# Altium integrated library altera.IntLib: 68 symbols (part 6 of 6)
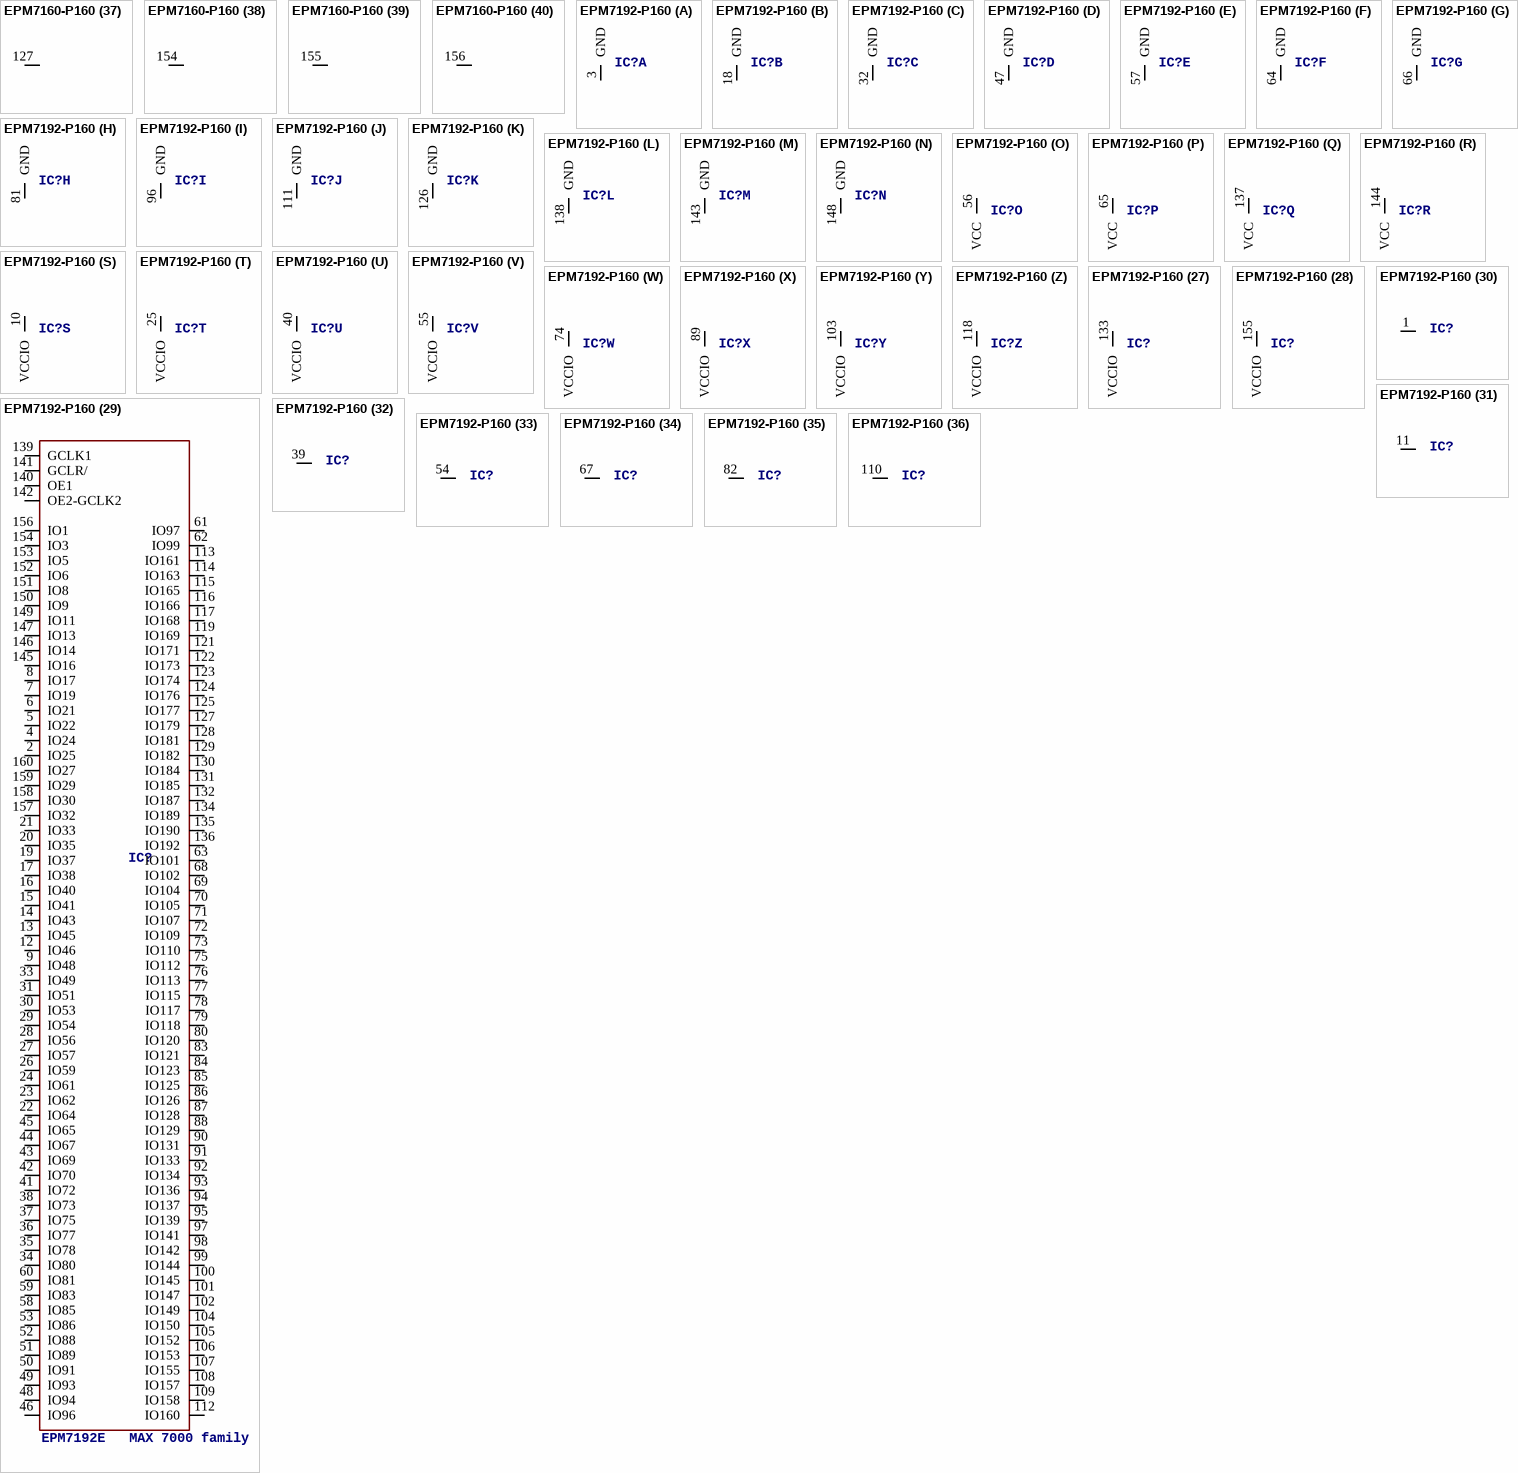
[diagram p62: symbols EPM7160-P160 to EPM7192-P160]

## EPM7160-P160
designator IC?, comment EPM7160S   MAX 7000 family
MPN: EPM7160SQC160-10N; OC_FARNELL: 1549437; OC_NEWARK: 51R9800
footprint PQFP160
part A pins: 8 VCCIO (power), 17 GND (power), 26 VCCIO@1 (power), 42 GND@1 (power), 55 VCCIO@2 (power), 60 GND@2 (power), 61 VCC (power), 66 GND@3 (power), 79 VCCIO@3 (power), 95 GND@4 (power), 104 VCCIO@4 (power), 113 GND@5 (power), 133 VCCIO@5 (power), 138 GND@6 (power), 143 VCC@1 (power), 148 GND@7 (power)
part B pins: 1 NC
part C pins: 2 NC
part D pins: 3 NC
part E pins: 4 NC
part F pins: 5 NC
part G pins: 6 NC
part H pins: 34 NC
part I pins: 35 NC
part J pins: 36 NC
part K pins: 37 NC
part L pins: 38 NC
part M pins: 39 NC
part N pins: 40 NC
part O pins: 45 NC
part P pins: 46 NC
part Q pins: 47 NC
part R pins: 74 NC
part S pins: 75 NC
part T pins: 76 NC
part U pins: 81 NC
part V pins: 82 NC
part W pins: 83 NC
part X pins: 84 NC
part Y pins: 85 NC
part Z pins: 86 NC
part 27 pins: 87 NC
part 28 pins: 115 NC
part 29 pins: 116 NC
part 30 pins: 117 NC
part 31 pins: 118 NC
part 32 pins: 119 NC
part 33 pins: 120 NC
part 34 pins: 124 NC
part 35 pins: 125 NC
part 36 pins: 126 NC
part 37 pins: 127 NC
part 38 pins: 154 NC
part 39 pins: 155 NC
part 40 pins: 156 NC
part 41 pins: 157 NC
part 42 pins: 7 IO29, 9 IO27, 10 IO25, 11 IO24, 12 IO22, 13 IO21, 14 IO19, 15 IO17, 16 IO41, 18 IO43, 19 IO45, 20 IO46, 21 IO48, 22 IO40, 23 IO38, 24 IO37, 25 IO35, 27 IO33, 28 IO64, 29 IO62, 30 IO61, 31 IO59, 32 IO57, 33 IO56, 41 IO54, 43 IO53, 44 IO51, 48 IO49, 49 IO80, 50 IO78, 51 IO77-TDI, 52 IO75, 53 IO73, 54 IO72, 56 IO70, 57 IO69, 58 IO67, 59 IO65, 62 IO81, 63 IO83, 64 IO85, 65 IO86, 67 IO88, 68 IO89, 69 IO91, 70 IO93, 71 IO94, 72 IO96, 73 IO97, 77 IO99, 78 IO101, 80 IO102, 88 IO104, 89 IO105, 90 IO107, 91 IO109-TMS, 92 IO110, 93 IO112, 94 IO113, 96 IO115, 97 IO117, 98 IO118, 99 IO120, 100 IO128, 101 IO126, 102 IO125, 103 IO123, 105 IO121, 106 IO129, 107 IO131, 108 IO133, 109 IO134, 110 IO136, 111 IO137, 112 IO139, 114 TDO-IO141, 121 IO142, 122 IO144, 123 IO145, 128 IO147, 129 IO149, 130 IO150, 131 IO152, 132 IO153, 134 IO155, 135 IO157, 136 IO158, 137 IO160, 139 GCLK1, 140 OE1, 141 GCLR/, 142 OE2-GCLK2, 144 IO16, 145 IO14, 146 IO13, 147 IO11, 149 IO9, 150 IO8, 151 IO6, 152 IO5, 153 IO3, 158 IO1, 159 IO32, 160 IO30

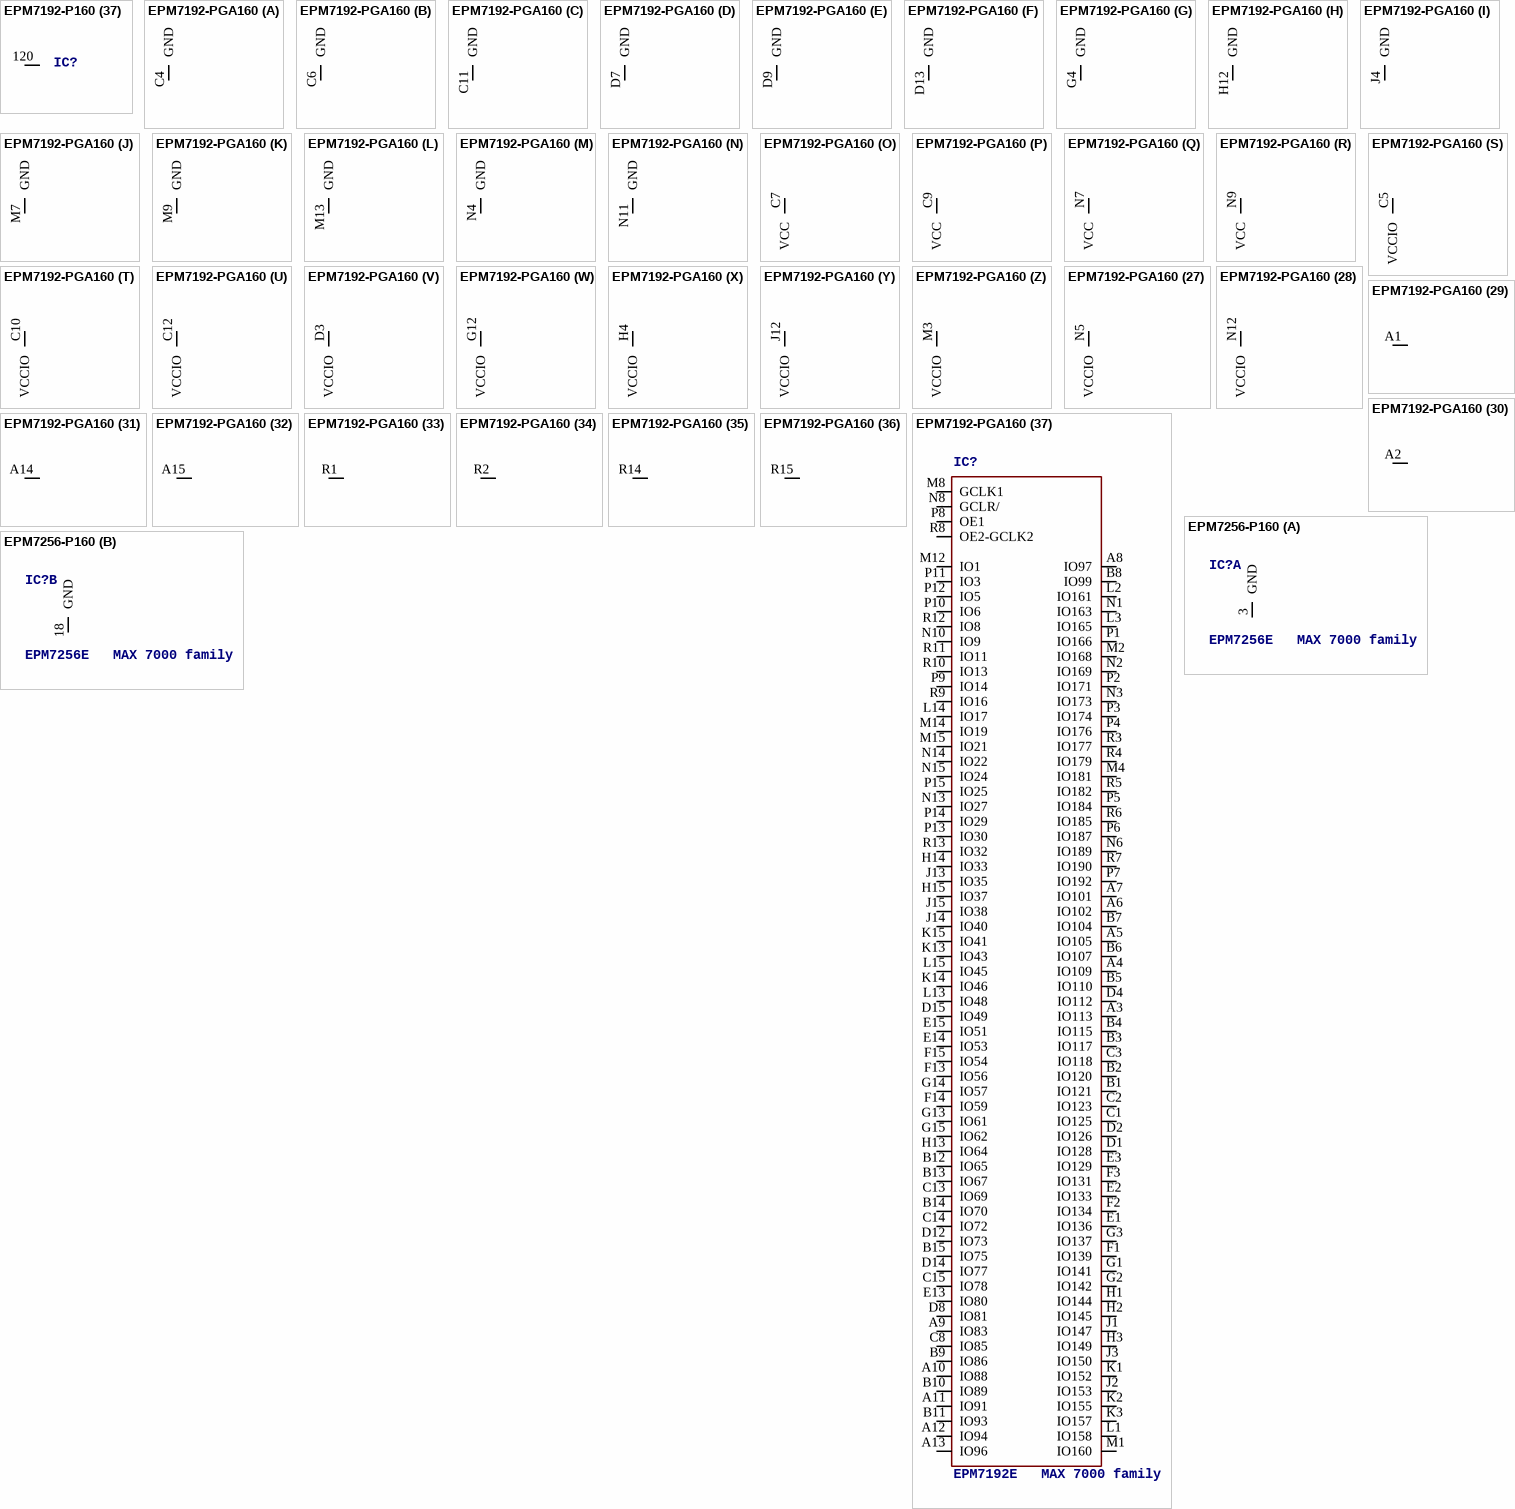
[diagram p47: symbols EPM7192-P160 to EPM7256-P160]

## EPM7192-P160
designator IC?, comment EPM7192E   MAX 7000 family
MPN: EPM7192SQC160-10N; OC_FARNELL: 1549438; OC_NEWARK: 51R9820
footprint PQFP160
part A pins: 3 GND (power)
part B pins: 18 GND (power)
part C pins: 32 GND (power)
part D pins: 47 GND (power)
part E pins: 57 GND (power)
part F pins: 64 GND (power)
part G pins: 66 GND (power)
part H pins: 81 GND (power)
part I pins: 96 GND (power)
part J pins: 111 GND (power)
part K pins: 126 GND (power)
part L pins: 138 GND (power)
part M pins: 143 GND (power)
part N pins: 148 GND (power)
part O pins: 56 VCC (power)
part P pins: 65 VCC (power)
part Q pins: 137 VCC (power)
part R pins: 144 VCC (power)
part S pins: 10 VCCIO (power)
part T pins: 25 VCCIO (power)
part U pins: 40 VCCIO (power)
part V pins: 55 VCCIO (power)
part W pins: 74 VCCIO (power)
part X pins: 89 VCCIO (power)
part Y pins: 103 VCCIO (power)
part Z pins: 118 VCCIO (power)
part 27 pins: 133 VCCIO (power)
part 28 pins: 155 VCCIO (power)
part 29 pins: 2 IO25, 4 IO24, 5 IO22, 6 IO21, 7 IO19, 8 IO17, 9 IO48, 12 IO46, 13 IO45, 14 IO43, 15 IO41, 16 IO40, 17 IO38, 19 IO37, 20 IO35, 21 IO33, 22 IO64, 23 IO62, 24 IO61, 26 IO59, 27 IO57, 28 IO56, 29 IO54, 30 IO53, 31 IO51, 33 IO49, 34 IO80, 35 IO78, 36 IO77, 37 IO75, 38 IO73, 41 IO72, 42 IO70, 43 IO69, 44 IO67, 45 IO65, 46 IO96, 48 IO94, 49 IO93, 50 IO91, 51 IO89, 52 IO88, 53 IO86, 58 IO85, 59 IO83, 60 IO81, 61 IO97, 62 IO99, 63 IO101, 68 IO102, 69 IO104, 70 IO105, 71 IO107, 72 IO109, 73 IO110, 75 IO112, 76 IO113, 77 IO115, 78 IO117, 79 IO118, 80 IO120, 83 IO121, 84 IO123, 85 IO125, 86 IO126, 87 IO128, 88 IO129, 90 IO131, 91 IO133, 92 IO134, 93 IO136, 94 IO137, 95 IO139, 97 IO141, 98 IO142, 99 IO144, 100 IO145, 101 IO147, 102 IO149, 104 IO150, 105 IO152, 106 IO153, 107 IO155, 108 IO157, 109 IO158, 112 IO160, 113 IO161, 114 IO163, 115 IO165, 116 IO166, 117 IO168, 119 IO169, 121 IO171, 122 IO173, 123 IO174, 124 IO176, 125 IO177, 127 IO179, 128 IO181, 129 IO182, 130 IO184, 131 IO185, 132 IO187, 134 IO189, 135 IO190, 136 IO192, 139 GCLK1, 140 OE1, 141 GCLR/, 142 OE2-GCLK2, 145 IO16, 146 IO14, 147 IO13, 149 IO11, 150 IO9, 151 IO8, 152 IO6, 153 IO5, 154 IO3, 156 IO1, 157 IO32, 158 IO30, 159 IO29, 160 IO27
part 30 pins: 1 NC
part 31 pins: 11 NC
part 32 pins: 39 NC
part 33 pins: 54 NC
part 34 pins: 67 NC
part 35 pins: 82 NC
part 36 pins: 110 NC
part 37 pins: 120 NC

## EPM7192-PGA160
designator IC?, comment EPM7192E   MAX 7000 family
OC_FARNELL: unknown; OC_NEWARK: unknown
footprint PGA160
part A pins: C4 GND (power)
part B pins: C6 GND (power)
part C pins: C11 GND (power)
part D pins: D7 GND (power)
part E pins: D9 GND (power)
part F pins: D13 GND (power)
part G pins: G4 GND (power)
part H pins: H12 GND (power)
part I pins: J4 GND (power)
part J pins: M7 GND (power)
part K pins: M9 GND (power)
part L pins: M13 GND (power)
part M pins: N4 GND (power)
part N pins: N11 GND (power)
part O pins: C7 VCC (power)
part P pins: C9 VCC (power)
part Q pins: N7 VCC (power)
part R pins: N9 VCC (power)
part S pins: C5 VCCIO (power)
part T pins: C10 VCCIO (power)
part U pins: C12 VCCIO (power)
part V pins: D3 VCCIO (power)
part W pins: G12 VCCIO (power)
part X pins: H4 VCCIO (power)
part Y pins: J12 VCCIO (power)
part Z pins: M3 VCCIO (power)
part 27 pins: N5 VCCIO (power)
part 28 pins: N12 VCCIO (power)
part 29 pins: A1 NC
part 30 pins: A2 NC
part 31 pins: A14 NC
part 32 pins: A15 NC
part 33 pins: R1 NC
part 34 pins: R2 NC
part 35 pins: R14 NC
part 36 pins: R15 NC
part 37 pins: A3 IO113, A4 IO109, A5 IO105, A6 IO102, A7 IO101, A8 IO97, A9 IO83, A10 IO88, A11 IO91, A12 IO94, A13 IO96, B1 IO121, B2 IO120, B3 IO117, B4 IO115, B5 IO110, B6 IO107, B7 IO104, B8 IO99, B9 IO86, B10 IO89, B11 IO93, B12 IO65, B13 IO67, B14 IO70, B15 IO75, C1 IO125, C2 IO123, C3 IO118, C8 IO85, C13 IO69, C14 IO72, C15 IO78, D1 IO128, D2 IO126, D4 IO112, D8 IO81, D12 IO73, D14 IO77, D15 IO49, E1 IO136, E2 IO133, E3 IO129, E13 IO80, E14 IO53, E15 IO51, F1 IO139, F2 IO134, F3 IO131, F13 IO56, F14 IO59, F15 IO54, G1 IO141, G2 IO142, G3 IO137, G13 IO61, G14 IO57, G15 IO62, H1 IO144, H2 IO145, H3 IO149, H13 IO64, H14 IO33, H15 IO37, J1 IO147, J2 IO153, J3 IO150, J13 IO35, J14 IO40, J15 IO38, K1 IO152, K2 IO155, K3 IO157, K13 IO43, K14 IO46, K15 IO41, L1 IO158, L2 IO161, L3 IO165, L13 IO48, L14 IO17, L15 IO45, M1 IO160, M2 IO168, M4 IO181, M8 GCLK1, M12 IO1, M14 IO19, M15 IO21, N1 IO163, N2 IO169, N3 IO173, N6 IO189, N8 GCLR/, N10 IO9, N13 IO27, N14 IO22, N15 IO24, P1 IO166, P2 IO171, P3 IO174, P4 IO176, P5 IO184, P6 IO187, P7 IO192, P8 OE1, P9 IO14, P10 IO6, P11 IO3, P12 IO5, P13 IO30, P14 IO29, P15 IO25, R3 IO177, R4 IO179, R5 IO182, R6 IO185, R7 IO190, R8 OE2-GCLK2, R9 IO16, R10 IO13, R11 IO11, R12 IO8, R13 IO32

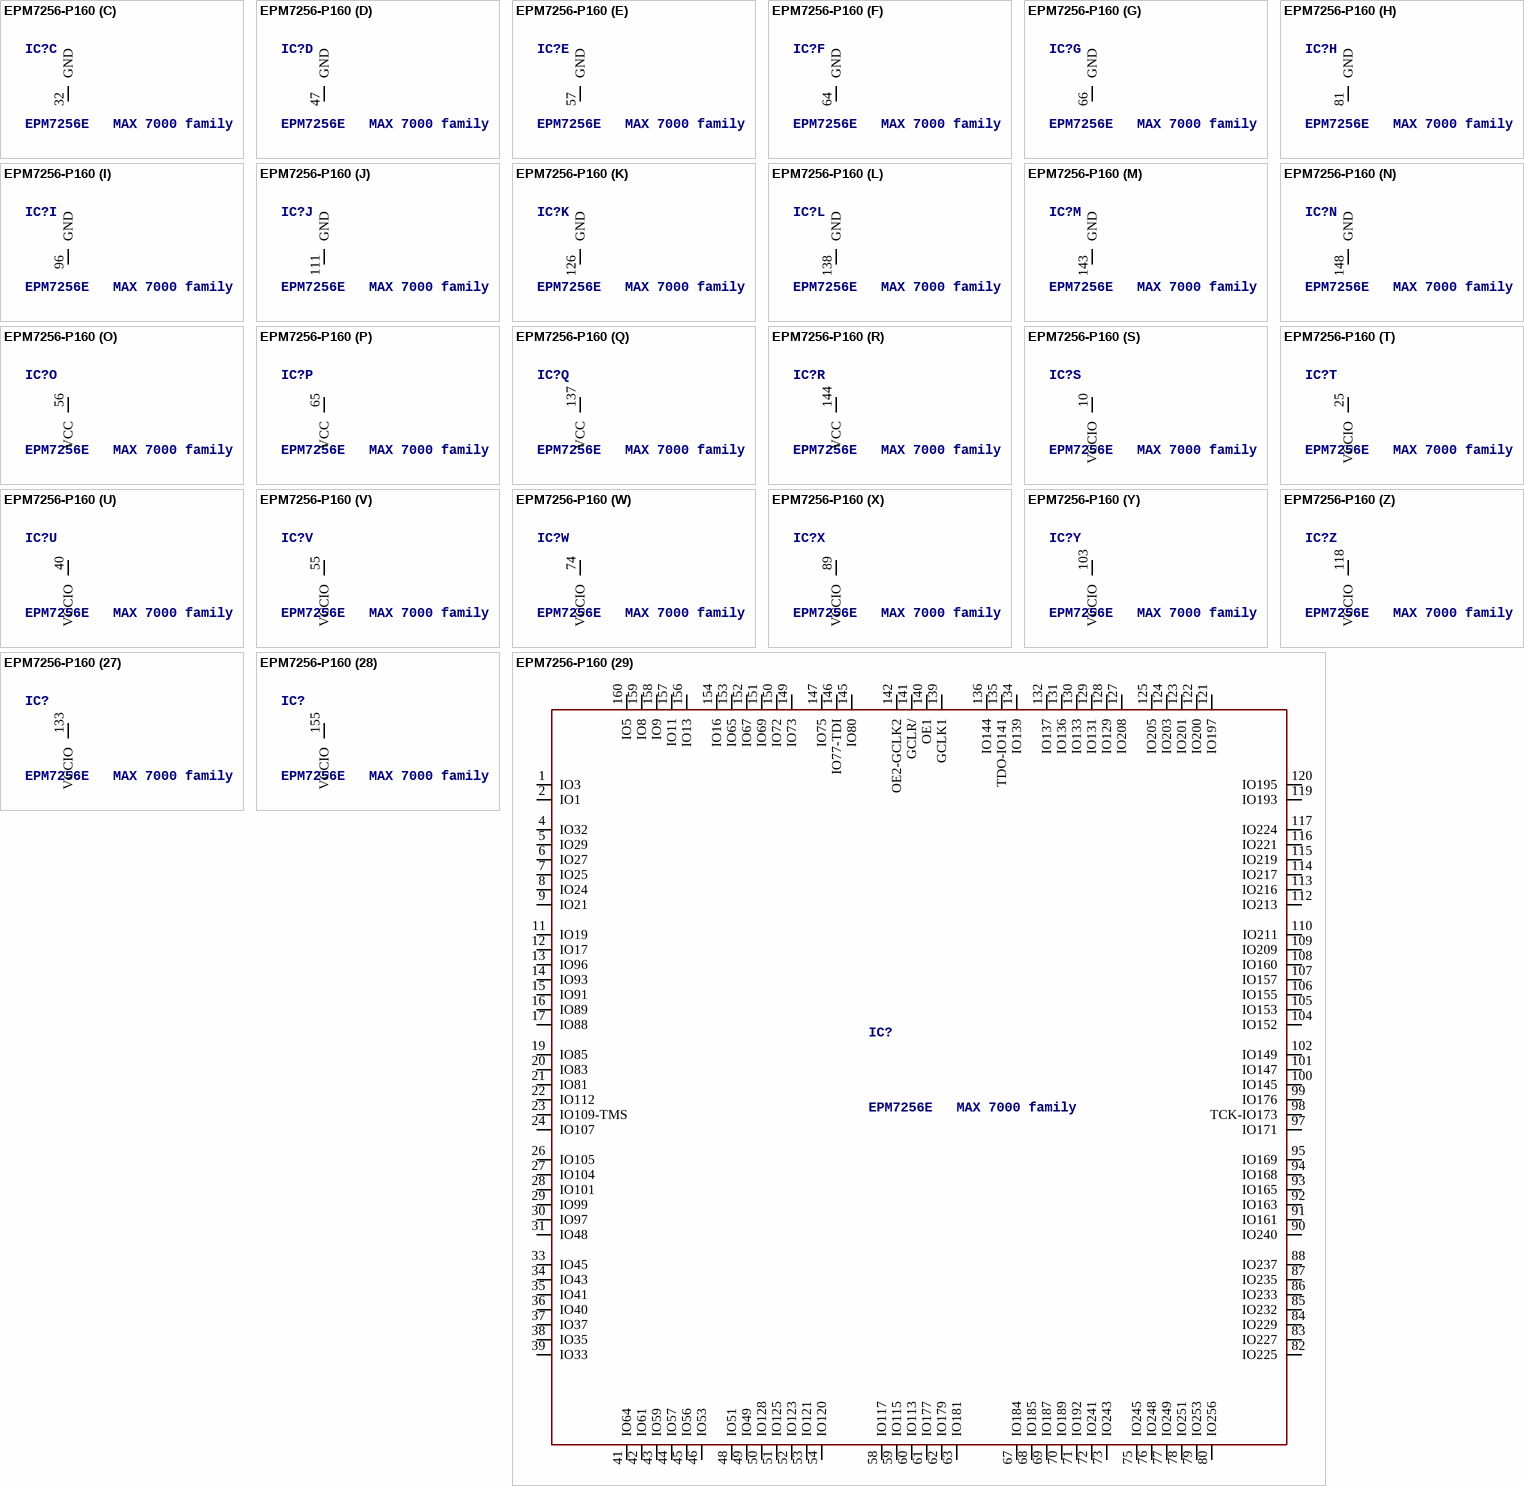
[diagram p48: symbol EPM7256-P160]

## EPM7256-P160
designator IC?, comment EPM7256E   MAX 7000 family
MPN: EPM7256EQC160-12; OC_FARNELL: unknown; OC_NEWARK: 51R9894
footprint PQFP160
part A pins: 3 GND (power)
part B pins: 18 GND (power)
part C pins: 32 GND (power)
part D pins: 47 GND (power)
part E pins: 57 GND (power)
part F pins: 64 GND (power)
part G pins: 66 GND (power)
part H pins: 81 GND (power)
part I pins: 96 GND (power)
part J pins: 111 GND (power)
part K pins: 126 GND (power)
part L pins: 138 GND (power)
part M pins: 143 GND (power)
part N pins: 148 GND (power)
part O pins: 56 VCC (power)
part P pins: 65 VCC (power)
part Q pins: 137 VCC (power)
part R pins: 144 VCC (power)
part S pins: 10 VCCIO (power)
part T pins: 25 VCCIO (power)
part U pins: 40 VCCIO (power)
part V pins: 55 VCCIO (power)
part W pins: 74 VCCIO (power)
part X pins: 89 VCCIO (power)
part Y pins: 103 VCCIO (power)
part Z pins: 118 VCCIO (power)
part 27 pins: 133 VCCIO (power)
part 28 pins: 155 VCCIO (power)
part 29 pins: 1 IO3, 2 IO1, 4 IO32, 5 IO29, 6 IO27, 7 IO25, 8 IO24, 9 IO21, 11 IO19, 12 IO17, 13 IO96, 14 IO93, 15 IO91, 16 IO89, 17 IO88, 19 IO85, 20 IO83, 21 IO81, 22 IO112, 23 IO109-TMS, 24 IO107, 26 IO105, 27 IO104, 28 IO101, 29 IO99, 30 IO97, 31 IO48, 33 IO45, 34 IO43, 35 IO41, 36 IO40, 37 IO37, 38 IO35, 39 IO33, 41 IO64, 42 IO61, 43 IO59, 44 IO57, 45 IO56, 46 IO53, 48 IO51, 49 IO49, 50 IO128, 51 IO125, 52 IO123, 53 IO121, 54 IO120, 58 IO117, 59 IO115, 60 IO113, 61 IO177, 62 IO179, 63 IO181, 67 IO184, 68 IO185, 69 IO187, 70 IO189, 71 IO192, 72 IO241, 73 IO243, 75 IO245, 76 IO248, 77 IO249, 78 IO251, 79 IO253, 80 IO256, 82 IO225, 83 IO227, 84 IO229, 85 IO232, 86 IO233, 87 IO235, 88 IO237, 90 IO240, 91 IO161, 92 IO163, 93 IO165, 94 IO168, 95 IO169, 97 IO171, 98 TCK-IO173, 99 IO176, 100 IO145, 101 IO147, 102 IO149, 104 IO152, 105 IO153, 106 IO155, 107 IO157, 108 IO160, 109 IO209, 110 IO211, 112 IO213, 113 IO216, 114 IO217, 115 IO219, 116 IO221, 117 IO224, 119 IO193, 120 IO195, 121 IO197, 122 IO200, 123 IO201, 124 IO203, 125 IO205, 127 IO208, 128 IO129, 129 IO131, 130 IO133, 131 IO136, 132 IO137, 134 IO139, 135 TDO-IO141, 136 IO144, 139 GCLK1, 140 OE1, 141 GCLR/, 142 OE2-GCLK2, 145 IO80, 146 IO77-TDI, 147 IO75, 149 IO73, 150 IO72, 151 IO69, 152 IO67, 153 IO65, 154 IO16, 156 IO13, 157 IO11, 158 IO9, 159 IO8, 160 IO5

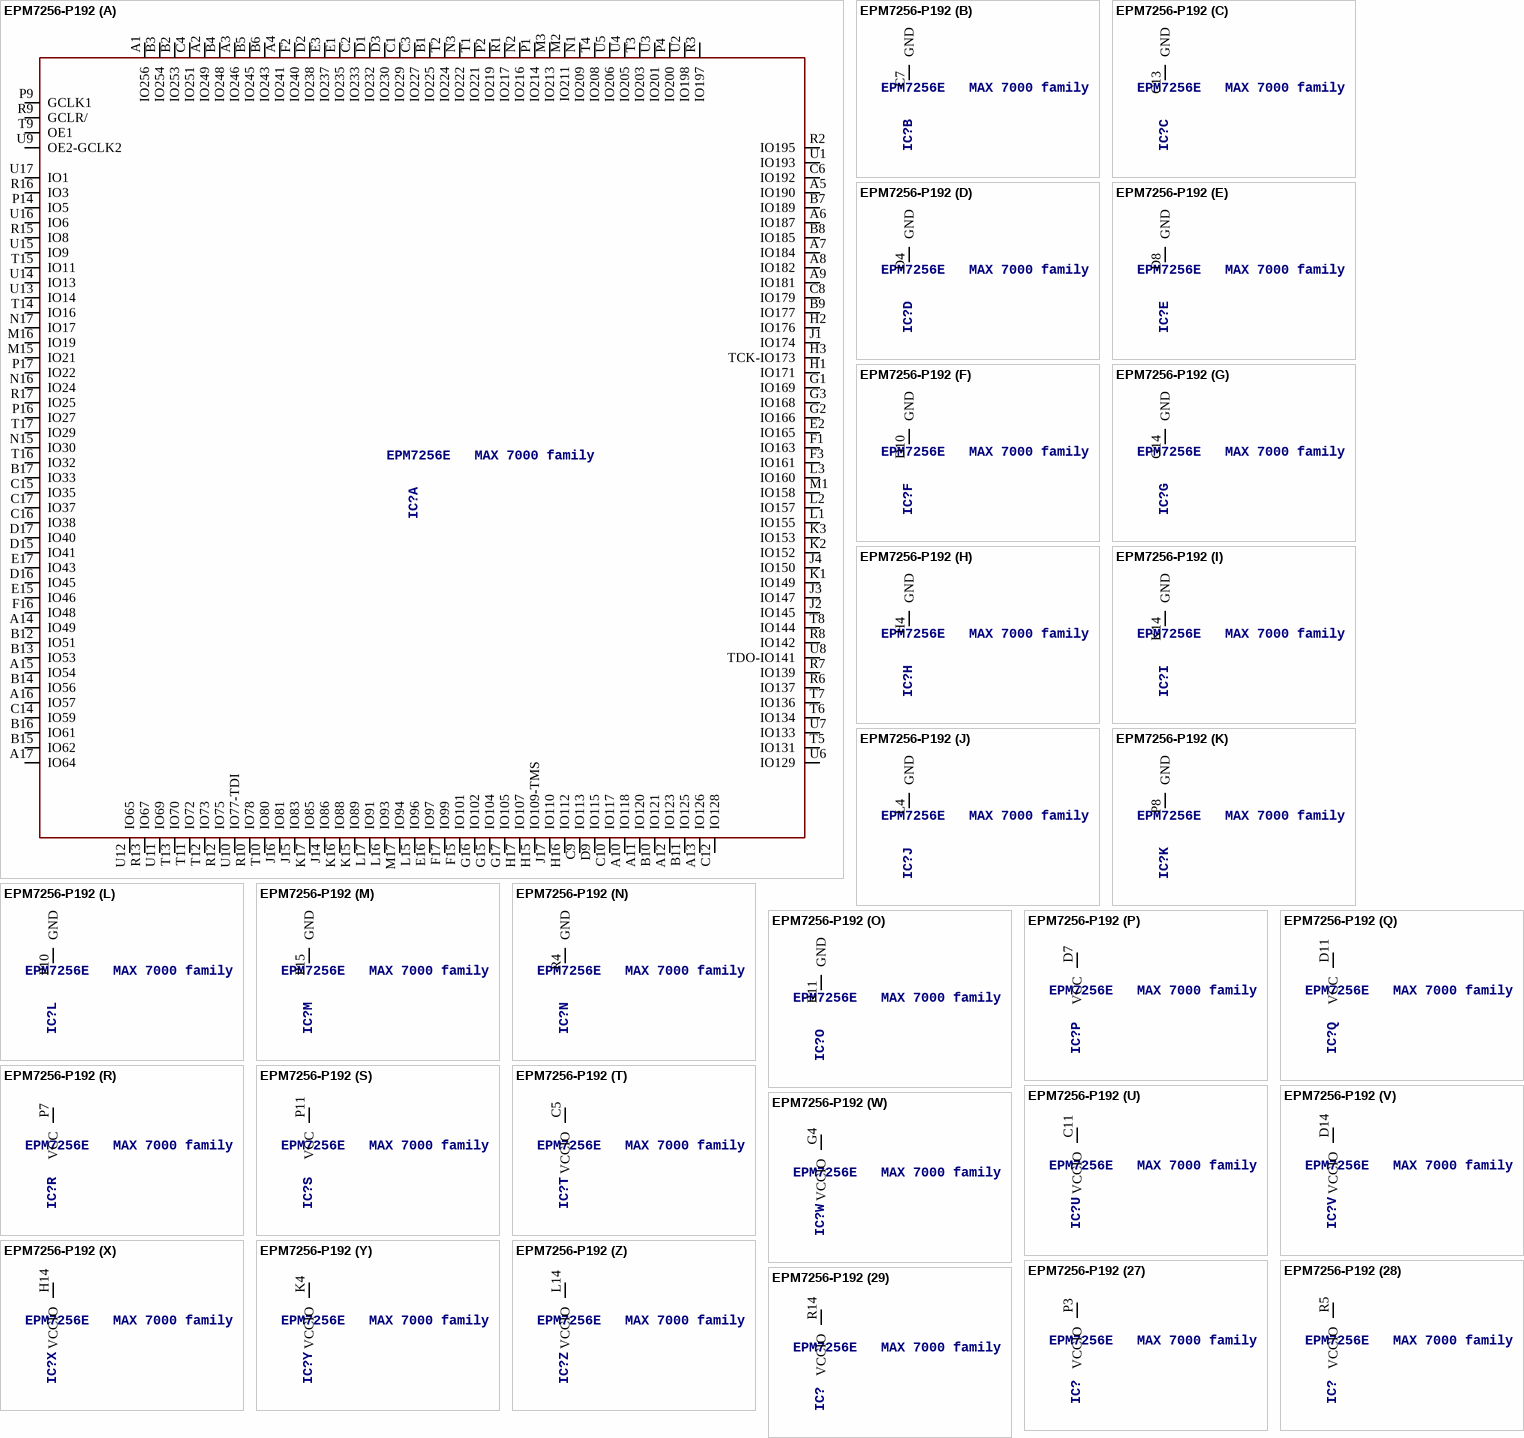
[diagram p49: symbol EPM7256-P192]

## EPM7256-P192
designator IC?, comment EPM7256E   MAX 7000 family
OC_FARNELL: unknown; OC_NEWARK: unknown
footprint PGA192
part A pins: A1 IO256, A2 IO249, A3 IO246, A4 IO241, A5 IO190, A6 IO187, A7 IO184, A8 IO182, A9 IO181, A10 IO118, A11 IO120, A12 IO123, A13 IO126, A14 IO49, A15 IO54, A16 IO57, A17 IO64, B1 IO225, B2 IO253, B3 IO254, B4 IO248, B5 IO245, B6 IO243, B7 IO189, B8 IO185, B9 IO177, B10 IO121, B11 IO125, B12 IO51, B13 IO53, B14 IO56, B15 IO62, B16 IO61, B17 IO33, C1 IO229, C2 IO233, C3 IO227, C4 IO251, C6 IO192, C8 IO179, C9 IO113, C10 IO117, C12 IO128, C14 IO59, C15 IO35, C16 IO38, C17 IO37, D1 IO232, D2 IO238, D3 IO230, D9 IO115, D15 IO41, D16 IO45, D17 IO40, E1 IO235, E2 IO165, E3 IO237, E15 IO46, E16 IO97, E17 IO43, F1 IO163, F2 IO240, F3 IO161, F15 IO101, F16 IO48, F17 IO99, G1 IO169, G2 IO166, G3 IO168, G15 IO104, G16 IO102, G17 IO105, H1 IO171, H2 IO176, H3 TCK-IO173, H15 IO109-TMS, H16 IO112, H17 IO107, J1 IO174, J2 IO145, J3 IO147, J4 IO150, J14 IO86, J15 IO83, J16 IO81, J17 IO110, K1 IO149, K2 IO152, K3 IO153, K15 IO89, K16 IO88, K17 IO85, L1 IO155, L2 IO157, L3 IO160, L15 IO96, L16 IO93, L17 IO91, M1 IO158, M2 IO211, M3 IO213, M15 IO21, M16 IO19, M17 IO94, N1 IO209, N2 IO216, N3 IO222, N15 IO30, N16 IO24, N17 IO17, P1 IO214, P2 IO219, P4 IO200, P9 GCLK1, P14 IO5, P16 IO27, P17 IO22, R1 IO217, R2 IO195, R3 IO197, R6 IO137, R7 IO139, R8 IO142, R9 GCLR/, R10 IO78, R12 IO75, R13 IO67, R15 IO8, R16 IO3, R17 IO25, T1 IO221, T2 IO224, T3 IO203, T4 IO208, T5 IO131, T6 IO134, T7 IO136, T8 IO144, T9 OE1, T10 IO80, T11 IO72, T12 IO73, T13 IO70, T14 IO16, T15 IO11, T16 IO32, T17 IO29, U1 IO193, U2 IO198, U3 IO201, U4 IO205, U5 IO206, U6 IO129, U7 IO133, U8 TDO-IO141, U9 OE2-GCLK2, U10 IO77-TDI, U11 IO69, U12 IO65, U13 IO14, U14 IO13, U15 IO9, U16 IO6, U17 IO1
part B pins: C7 GND (power)
part C pins: C13 GND (power)
part D pins: D4 GND (power)
part E pins: D8 GND (power)
part F pins: D10 GND (power)
part G pins: G14 GND (power)
part H pins: H4 GND (power)
part I pins: K14 GND (power)
part J pins: L4 GND (power)
part K pins: P8 GND (power)
part L pins: P10 GND (power)
part M pins: P15 GND (power)
part N pins: R4 GND (power)
part O pins: R11 GND (power)
part P pins: D7 VCC (power)
part Q pins: D11 VCC (power)
part R pins: P7 VCC (power)
part S pins: P11 VCC (power)
part T pins: C5 VCCIO (power)
part U pins: C11 VCCIO (power)
part V pins: D14 VCCIO (power)
part W pins: G4 VCCIO (power)
part X pins: H14 VCCIO (power)
part Y pins: K4 VCCIO (power)
part Z pins: L14 VCCIO (power)
part 27 pins: P3 VCCIO (power)
part 28 pins: R5 VCCIO (power)
part 29 pins: R14 VCCIO (power)

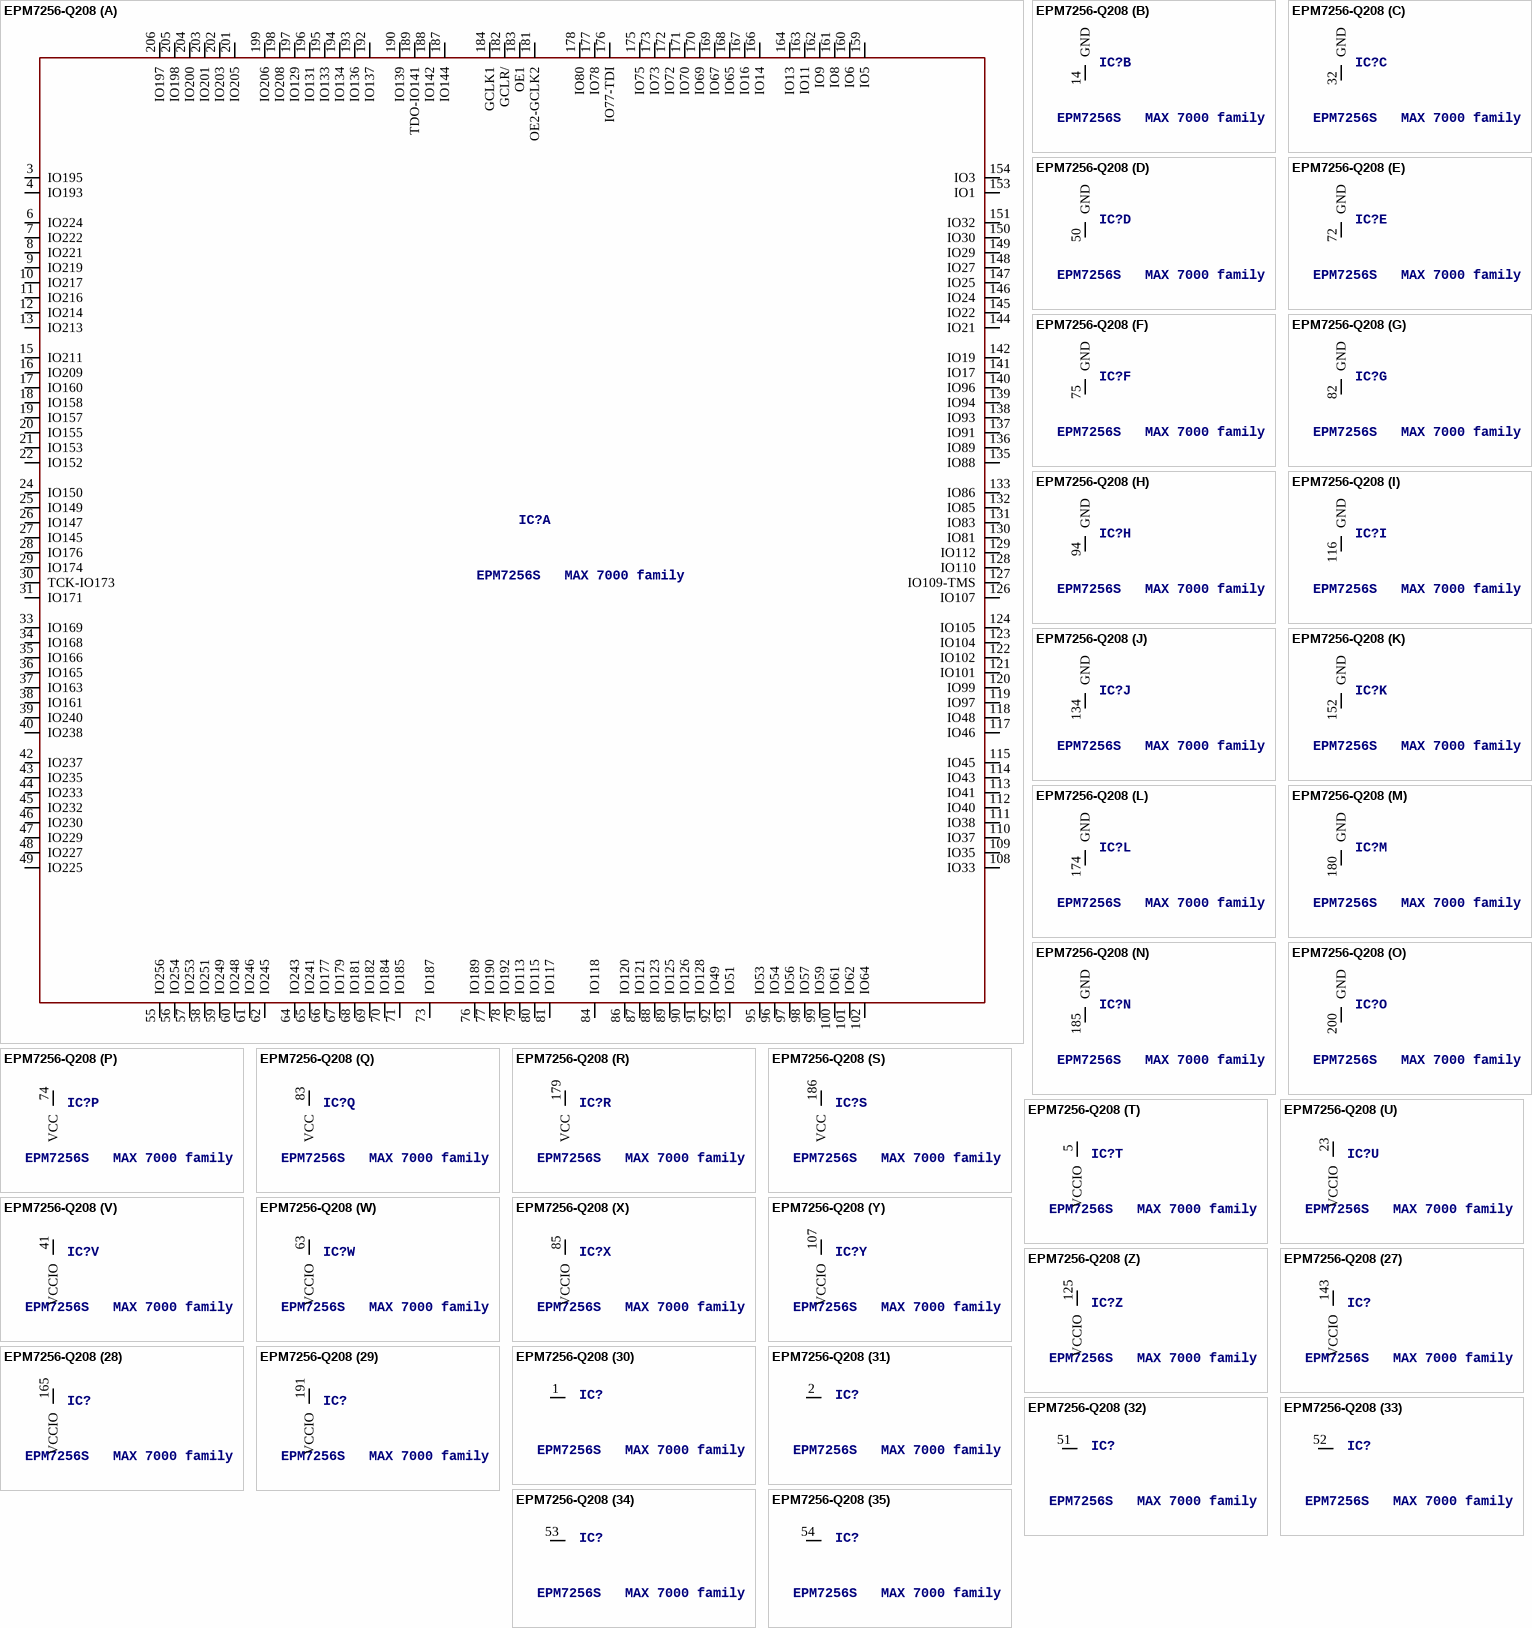
[diagram p50: symbol EPM7256-Q208]

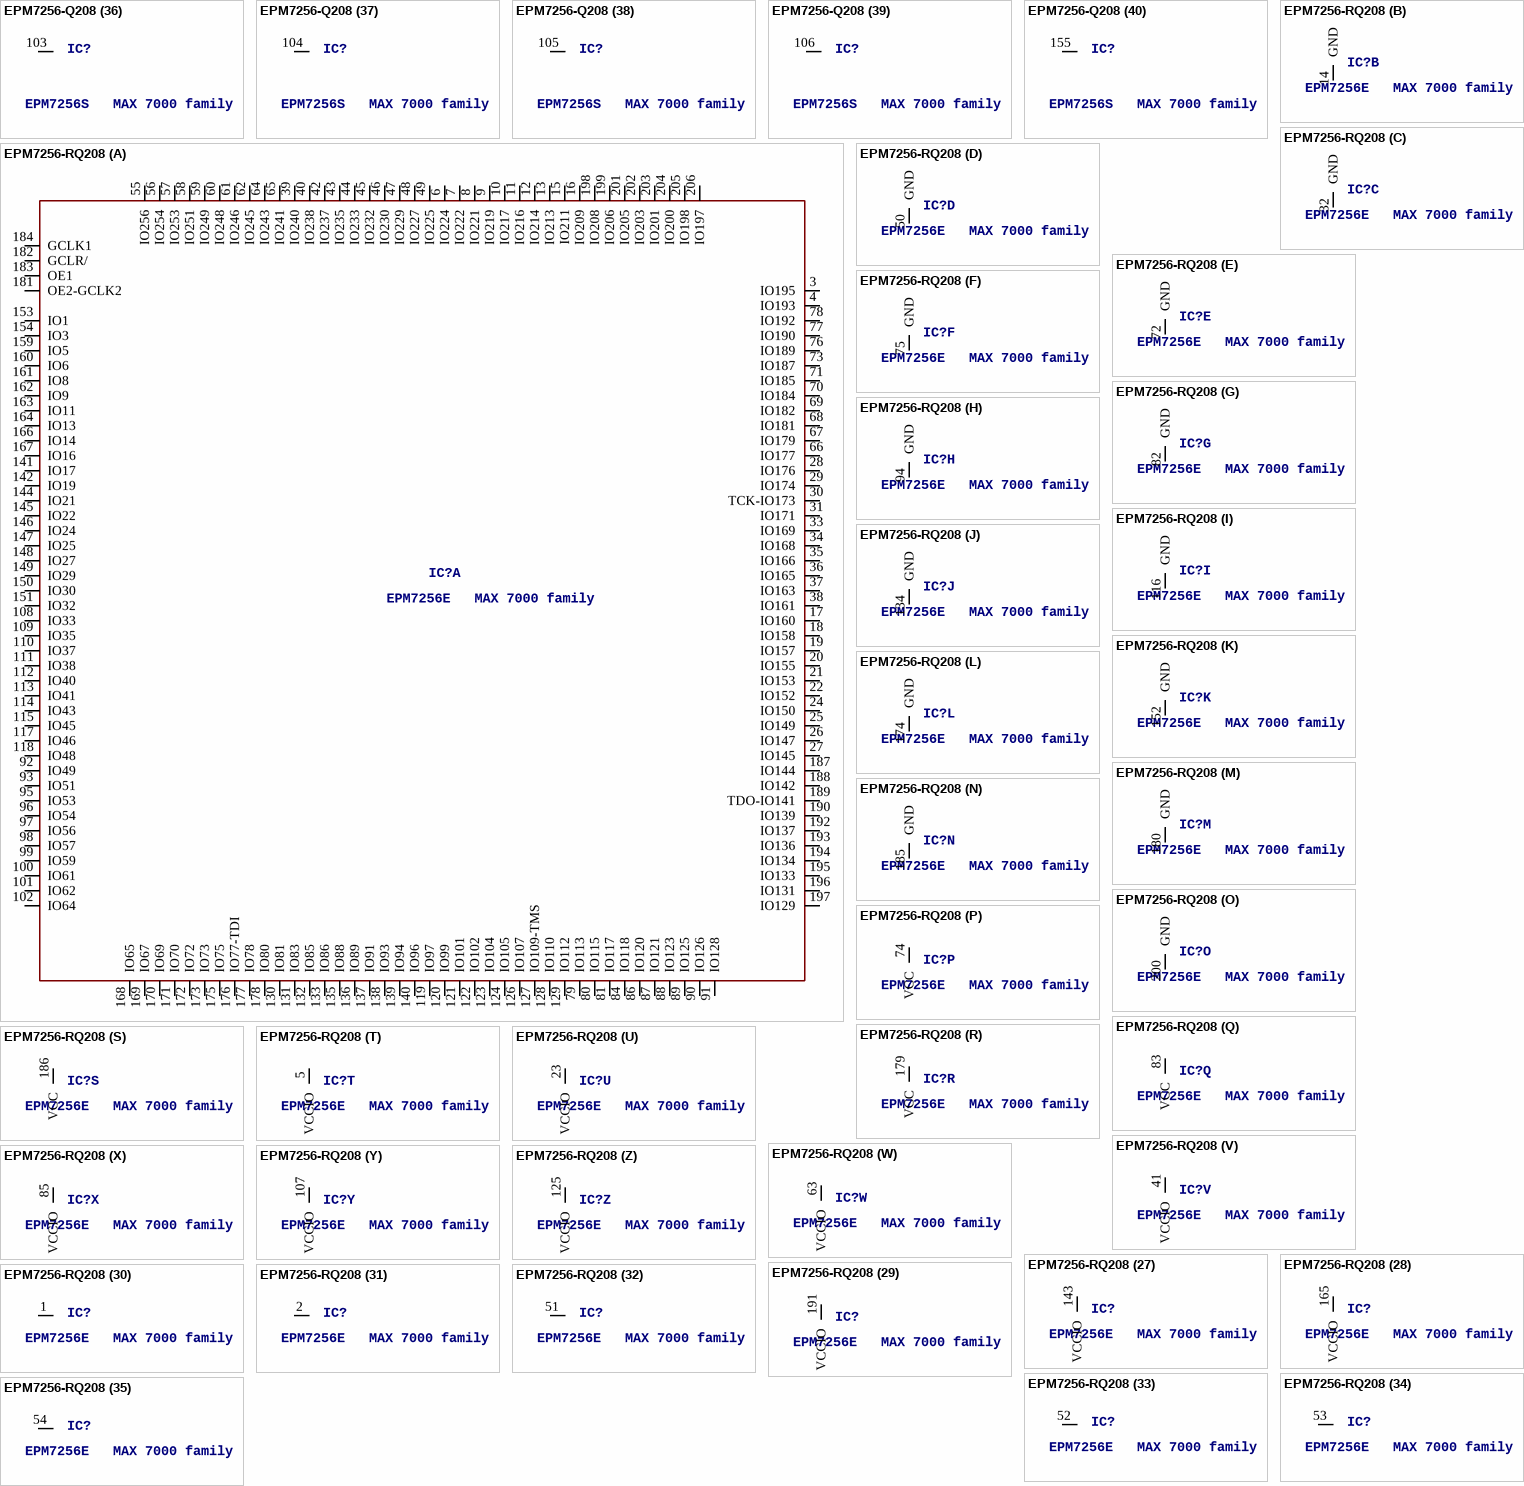
[diagram p51: symbols EPM7256-Q208 to EPM7256-RQ208]

## EPM7256-Q208
designator IC?, comment EPM7256S   MAX 7000 family
MPN: EPM7256AEQC208-10N; OC_FARNELL: 1549440; OC_NEWARK: 51R9842
footprint RQFP208
part A pins: 3 IO195, 4 IO193, 6 IO224, 7 IO222, 8 IO221, 9 IO219, 10 IO217, 11 IO216, 12 IO214, 13 IO213, 15 IO211, 16 IO209, 17 IO160, 18 IO158, 19 IO157, 20 IO155, 21 IO153, 22 IO152, 24 IO150, 25 IO149, 26 IO147, 27 IO145, 28 IO176, 29 IO174, 30 TCK-IO173, 31 IO171, 33 IO169, 34 IO168, 35 IO166, 36 IO165, 37 IO163, 38 IO161, 39 IO240, 40 IO238, 42 IO237, 43 IO235, 44 IO233, 45 IO232, 46 IO230, 47 IO229, 48 IO227, 49 IO225, 55 IO256, 56 IO254, 57 IO253, 58 IO251, 59 IO249, 60 IO248, 61 IO246, 62 IO245, 64 IO243, 65 IO241, 66 IO177, 67 IO179, 68 IO181, 69 IO182, 70 IO184, 71 IO185, 73 IO187, 76 IO189, 77 IO190, 78 IO192, 79 IO113, 80 IO115, 81 IO117, 84 IO118, 86 IO120, 87 IO121, 88 IO123, 89 IO125, 90 IO126, 91 IO128, 92 IO49, 93 IO51, 95 IO53, 96 IO54, 97 IO56, 98 IO57, 99 IO59, 100 IO61, 101 IO62, 102 IO64, 108 IO33, 109 IO35, 110 IO37, 111 IO38, 112 IO40, 113 IO41, 114 IO43, 115 IO45, 117 IO46, 118 IO48, 119 IO97, 120 IO99, 121 IO101, 122 IO102, 123 IO104, 124 IO105, 126 IO107, 127 IO109-TMS, 128 IO110, 129 IO112, 130 IO81, 131 IO83, 132 IO85, 133 IO86, 135 IO88, 136 IO89, 137 IO91, 138 IO93, 139 IO94, 140 IO96, 141 IO17, 142 IO19, 144 IO21, 145 IO22, 146 IO24, 147 IO25, 148 IO27, 149 IO29, 150 IO30, 151 IO32, 153 IO1, 154 IO3, 159 IO5, 160 IO6, 161 IO8, 162 IO9, 163 IO11, 164 IO13, 166 IO14, 167 IO16, 168 IO65, 169 IO67, 170 IO69, 171 IO70, 172 IO72, 173 IO73, 175 IO75, 176 IO77-TDI, 177 IO78, 178 IO80, 181 OE2-GCLK2, 182 GCLR/, 183 OE1, 184 GCLK1, 187 IO144, 188 IO142, 189 TDO-IO141, 190 IO139, 192 IO137, 193 IO136, 194 IO134, 195 IO133, 196 IO131, 197 IO129, 198 IO208, 199 IO206, 201 IO205, 202 IO203, 203 IO201, 204 IO200, 205 IO198, 206 IO197
part B pins: 14 GND (power)
part C pins: 32 GND (power)
part D pins: 50 GND (power)
part E pins: 72 GND (power)
part F pins: 75 GND (power)
part G pins: 82 GND (power)
part H pins: 94 GND (power)
part I pins: 116 GND (power)
part J pins: 134 GND (power)
part K pins: 152 GND (power)
part L pins: 174 GND (power)
part M pins: 180 GND (power)
part N pins: 185 GND (power)
part O pins: 200 GND (power)
part P pins: 74 VCC (power)
part Q pins: 83 VCC (power)
part R pins: 179 VCC (power)
part S pins: 186 VCC (power)
part T pins: 5 VCCIO (power)
part U pins: 23 VCCIO (power)
part V pins: 41 VCCIO (power)
part W pins: 63 VCCIO (power)
part X pins: 85 VCCIO (power)
part Y pins: 107 VCCIO (power)
part Z pins: 125 VCCIO (power)
part 27 pins: 143 VCCIO (power)
part 28 pins: 165 VCCIO (power)
part 29 pins: 191 VCCIO (power)
part 30 pins: 1 NC
part 31 pins: 2 NC
part 32 pins: 51 NC
part 33 pins: 52 NC
part 34 pins: 53 NC
part 35 pins: 54 NC
part 36 pins: 103 NC
part 37 pins: 104 NC
part 38 pins: 105 NC
part 39 pins: 106 NC
part 40 pins: 155 NC
part 41 pins: 156 NC
part 42 pins: 157 NC
part 43 pins: 158 NC
part 44 pins: 207 NC
part 45 pins: 208 NC

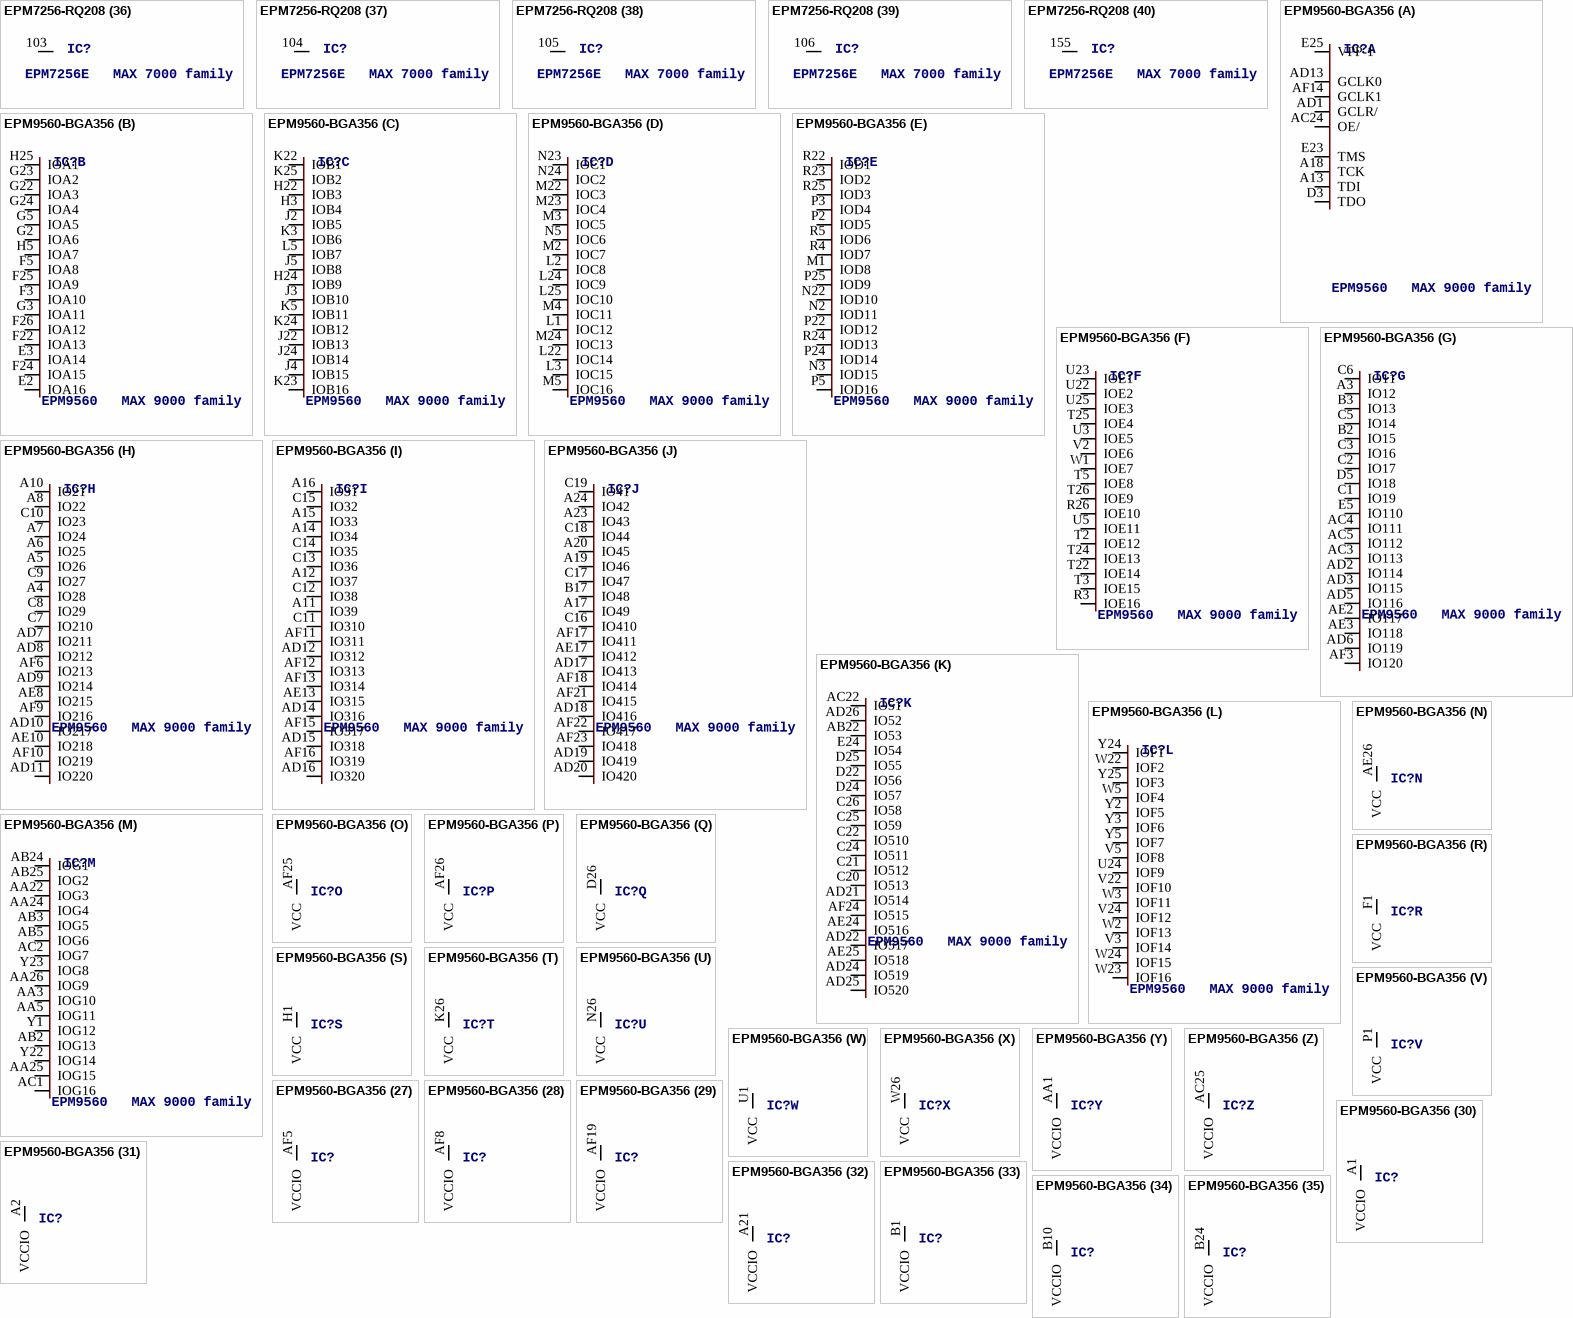
[diagram p52: symbols EPM7256-RQ208 to EPM9560-BGA356]

## EPM7256-RQ208
designator IC?, comment EPM7256E   MAX 7000 family
MPN: EPM7256AEQC208-10N; OC_FARNELL: 1549440; OC_NEWARK: 51R9842
footprint RQFP208
part A pins: 3 IO195, 4 IO193, 6 IO224, 7 IO222, 8 IO221, 9 IO219, 10 IO217, 11 IO216, 12 IO214, 13 IO213, 15 IO211, 16 IO209, 17 IO160, 18 IO158, 19 IO157, 20 IO155, 21 IO153, 22 IO152, 24 IO150, 25 IO149, 26 IO147, 27 IO145, 28 IO176, 29 IO174, 30 TCK-IO173, 31 IO171, 33 IO169, 34 IO168, 35 IO166, 36 IO165, 37 IO163, 38 IO161, 39 IO240, 40 IO238, 42 IO237, 43 IO235, 44 IO233, 45 IO232, 46 IO230, 47 IO229, 48 IO227, 49 IO225, 55 IO256, 56 IO254, 57 IO253, 58 IO251, 59 IO249, 60 IO248, 61 IO246, 62 IO245, 64 IO243, 65 IO241, 66 IO177, 67 IO179, 68 IO181, 69 IO182, 70 IO184, 71 IO185, 73 IO187, 76 IO189, 77 IO190, 78 IO192, 79 IO113, 80 IO115, 81 IO117, 84 IO118, 86 IO120, 87 IO121, 88 IO123, 89 IO125, 90 IO126, 91 IO128, 92 IO49, 93 IO51, 95 IO53, 96 IO54, 97 IO56, 98 IO57, 99 IO59, 100 IO61, 101 IO62, 102 IO64, 108 IO33, 109 IO35, 110 IO37, 111 IO38, 112 IO40, 113 IO41, 114 IO43, 115 IO45, 117 IO46, 118 IO48, 119 IO97, 120 IO99, 121 IO101, 122 IO102, 123 IO104, 124 IO105, 126 IO107, 127 IO109-TMS, 128 IO110, 129 IO112, 130 IO81, 131 IO83, 132 IO85, 133 IO86, 135 IO88, 136 IO89, 137 IO91, 138 IO93, 139 IO94, 140 IO96, 141 IO17, 142 IO19, 144 IO21, 145 IO22, 146 IO24, 147 IO25, 148 IO27, 149 IO29, 150 IO30, 151 IO32, 153 IO1, 154 IO3, 159 IO5, 160 IO6, 161 IO8, 162 IO9, 163 IO11, 164 IO13, 166 IO14, 167 IO16, 168 IO65, 169 IO67, 170 IO69, 171 IO70, 172 IO72, 173 IO73, 175 IO75, 176 IO77-TDI, 177 IO78, 178 IO80, 181 OE2-GCLK2, 182 GCLR/, 183 OE1, 184 GCLK1, 187 IO144, 188 IO142, 189 TDO-IO141, 190 IO139, 192 IO137, 193 IO136, 194 IO134, 195 IO133, 196 IO131, 197 IO129, 198 IO208, 199 IO206, 201 IO205, 202 IO203, 203 IO201, 204 IO200, 205 IO198, 206 IO197
part B pins: 14 GND (power)
part C pins: 32 GND (power)
part D pins: 50 GND (power)
part E pins: 72 GND (power)
part F pins: 75 GND (power)
part G pins: 82 GND (power)
part H pins: 94 GND (power)
part I pins: 116 GND (power)
part J pins: 134 GND (power)
part K pins: 152 GND (power)
part L pins: 174 GND (power)
part M pins: 180 GND (power)
part N pins: 185 GND (power)
part O pins: 200 GND (power)
part P pins: 74 VCC (power)
part Q pins: 83 VCC (power)
part R pins: 179 VCC (power)
part S pins: 186 VCC (power)
part T pins: 5 VCCIO (power)
part U pins: 23 VCCIO (power)
part V pins: 41 VCCIO (power)
part W pins: 63 VCCIO (power)
part X pins: 85 VCCIO (power)
part Y pins: 107 VCCIO (power)
part Z pins: 125 VCCIO (power)
part 27 pins: 143 VCCIO (power)
part 28 pins: 165 VCCIO (power)
part 29 pins: 191 VCCIO (power)
part 30 pins: 1 NC
part 31 pins: 2 NC
part 32 pins: 51 NC
part 33 pins: 52 NC
part 34 pins: 53 NC
part 35 pins: 54 NC
part 36 pins: 103 NC
part 37 pins: 104 NC
part 38 pins: 105 NC
part 39 pins: 106 NC
part 40 pins: 155 NC
part 41 pins: 156 NC
part 42 pins: 157 NC
part 43 pins: 158 NC
part 44 pins: 207 NC
part 45 pins: 208 NC

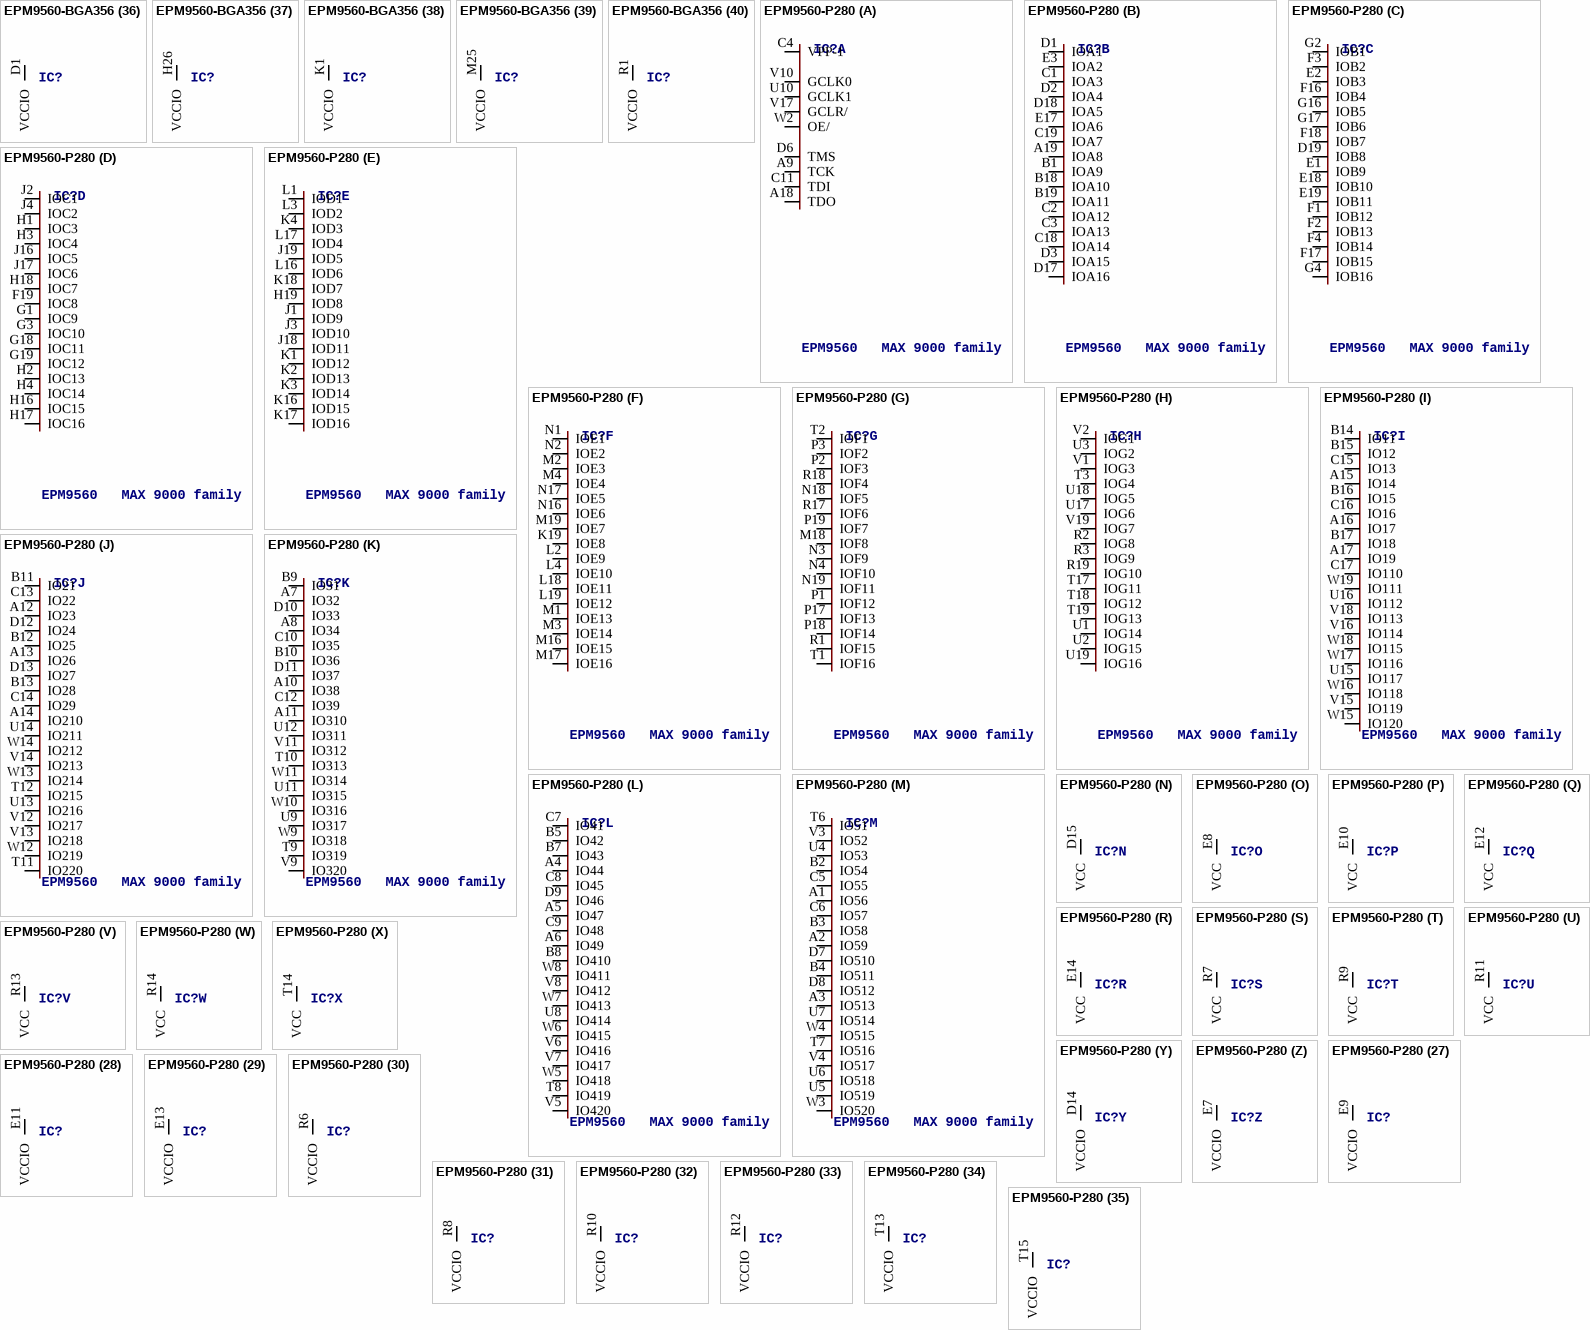
[diagram p53: symbols EPM9560-BGA356 to EPM9560-P280]

## EPM9560-BGA356
designator IC?, comment EPM9560   MAX 9000 family
MPN: EPM9560ABC356-10; OC_FARNELL: unknown; OC_NEWARK: 51R9960
footprint BGA356
part A pins: A13 TDI, A18 TCK, AC24 OE/, AD1 GCLR/, AD13 GCLK0, AF14 GCLK1, D3 TDO, E23 TMS, E25 VPP-1
part B pins: E2 IOA16, E3 IOA14, F3 IOA10, F5 IOA8, F22 IOA13, F24 IOA15, F25 IOA9, F26 IOA12, G2 IOA6, G3 IOA11, G5 IOA5, G22 IOA3, G23 IOA2, G24 IOA4, H5 IOA7, H25 IOA1
part C pins: H3 IOB4, H22 IOB3, H24 IOB9, J2 IOB5, J3 IOB10, J4 IOB15, J5 IOB8, J22 IOB13, J24 IOB14, K3 IOB6, K5 IOB11, K22 IOB1, K23 IOB16, K24 IOB12, K25 IOB2, L5 IOB7
part D pins: L1 IOC12, L2 IOC8, L3 IOC15, L22 IOC14, L24 IOC9, L25 IOC10, M2 IOC7, M3 IOC5, M4 IOC11, M5 IOC16, M22 IOC3, M23 IOC4, M24 IOC13, N5 IOC6, N23 IOC1, N24 IOC2
part E pins: M1 IOD8, N2 IOD11, N3 IOD15, N22 IOD10, P2 IOD5, P3 IOD4, P5 IOD16, P22 IOD12, P24 IOD14, P25 IOD9, R4 IOD7, R5 IOD6, R22 IOD1, R23 IOD2, R24 IOD13, R25 IOD3
part F pins: R3 IOE16, R26 IOE10, T2 IOE12, T3 IOE15, T5 IOE8, T22 IOE14, T24 IOE13, T25 IOE4, T26 IOE9, U3 IOE5, U5 IOE11, U22 IOE2, U23 IOE1, U25 IOE3, V2 IOE6, W1 IOE7
part G pins: A3 IO12, AC3 IO113, AC4 IO111, AC5 IO112, AD2 IO114, AD3 IO115, AD5 IO116, AD6 IO119, AE2 IO117, AE3 IO118, AF3 IO120, B2 IO15, B3 IO13, C1 IO19, C2 IO17, C3 IO16, C5 IO14, C6 IO11, D5 IO18, E5 IO110
part H pins: A4 IO28, A5 IO26, A6 IO25, A7 IO24, A8 IO22, A10 IO21, AD7 IO211, AD8 IO212, AD9 IO214, AD10 IO217, AD11 IO220, AE8 IO215, AE10 IO218, AF6 IO213, AF9 IO216, AF10 IO219, C7 IO210, C8 IO29, C9 IO27, C10 IO23
part I pins: A11 IO39, A12 IO37, A14 IO34, A15 IO33, A16 IO31, AD12 IO312, AD14 IO316, AD15 IO318, AD16 IO320, AE13 IO315, AF11 IO311, AF12 IO313, AF13 IO314, AF15 IO317, AF16 IO319, C11 IO310, C12 IO38, C13 IO36, C14 IO35, C15 IO32
part J pins: A17 IO49, A19 IO46, A20 IO45, A23 IO43, A24 IO42, AD17 IO413, AD18 IO416, AD19 IO419, AD20 IO420, AE17 IO412, AF17 IO411, AF18 IO414, AF21 IO415, AF22 IO417, AF23 IO418, B17 IO48, C16 IO410, C17 IO47, C18 IO44, C19 IO41
part K pins: AB22 IO53, AC22 IO51, AD21 IO514, AD22 IO517, AD24 IO519, AD25 IO520, AD26 IO52, AE24 IO516, AE25 IO518, AF24 IO515, C20 IO513, C21 IO512, C22 IO510, C24 IO511, C25 IO59, C26 IO58, D22 IO56, D24 IO57, D25 IO55, E24 IO54
part L pins: U24 IOF9, V3 IOF14, V5 IOF8, V22 IOF10, V24 IOF12, W2 IOF13, W3 IOF11, W5 IOF4, W22 IOF2, W23 IOF16, W24 IOF15, Y2 IOF5, Y3 IOF6, Y5 IOF7, Y24 IOF1, Y25 IOF3
part M pins: AA3 IOG10, AA5 IOG11, AA22 IOG3, AA24 IOG4, AA25 IOG15, AA26 IOG9, AB2 IOG13, AB3 IOG5, AB5 IOG6, AB24 IOG1, AB25 IOG2, AC1 IOG16, AC2 IOG7, Y1 IOG12, Y22 IOG14, Y23 IOG8
part N pins: AE26 VCC (power)
part O pins: AF25 VCC (power)
part P pins: AF26 VCC (power)
part Q pins: D26 VCC (power)
part R pins: F1 VCC (power)
part S pins: H1 VCC (power)
part T pins: K26 VCC (power)
part U pins: N26 VCC (power)
part V pins: P1 VCC (power)
part W pins: U1 VCC (power)
part X pins: W26 VCC (power)
part Y pins: AA1 VCCIO (power)
part Z pins: AC25 VCCIO (power)
part 27 pins: AF5 VCCIO (power)
part 28 pins: AF8 VCCIO (power)
part 29 pins: AF19 VCCIO (power)
part 30 pins: A1 VCCIO (power)
part 31 pins: A2 VCCIO (power)
part 32 pins: A21 VCCIO (power)
part 33 pins: B1 VCCIO (power)
part 34 pins: B10 VCCIO (power)
part 35 pins: B24 VCCIO (power)
part 36 pins: D1 VCCIO (power)
part 37 pins: H26 VCCIO (power)
part 38 pins: K1 VCCIO (power)
part 39 pins: M25 VCCIO (power)
part 40 pins: R1 VCCIO (power)
part 41 pins: V26 VCCIO (power)
part 42 pins: AA2 GND (power)
part 43 pins: AB1 GND (power)
part 44 pins: AB26 GND (power)
part 45 pins: AC26 GND (power)
part 46 pins: AE1 GND (power)
part 47 pins: AF1 GND (power)
part 48 pins: AF2 GND (power)
part 49 pins: AF4 GND (power)
part 50 pins: AF7 GND (power)
part 51 pins: AF20 GND (power)
part 52 pins: A9 GND (power)
part 53 pins: A22 GND (power)
part 54 pins: A25 GND (power)
part 55 pins: A26 GND (power)
part 56 pins: B25 GND (power)
part 57 pins: B26 GND (power)
part 58 pins: D2 GND (power)
part 59 pins: E1 GND (power)
part 60 pins: E26 GND (power)
part 61 pins: F2 GND (power)
part 62 pins: G1 GND (power)
part 63 pins: G25 GND (power)
part 64 pins: G26 GND (power)
part 65 pins: H2 GND (power)
part 66 pins: J1 GND (power)
part 67 pins: J25 GND (power)
part 68 pins: J26 GND (power)
part 69 pins: K2 GND (power)
part 70 pins: L26 GND (power)
part 71 pins: M26 GND (power)
part 72 pins: N1 GND (power)
part 73 pins: N25 GND (power)
part 74 pins: P26 GND (power)
part 75 pins: R2 GND (power)
part 76 pins: T1 GND (power)
part 77 pins: U2 GND (power)
part 78 pins: U26 GND (power)
part 79 pins: V1 GND (power)
part 80 pins: V25 GND (power)
part 81 pins: W25 GND (power)
part 82 pins: Y26 GND (power)
part 83 pins: AA4 NC
part 84 pins: AA23 NC
part 85 pins: AB4 NC
part 86 pins: AB23 NC
part 87 pins: AC23 NC
part 88 pins: AD4 NC
part 89 pins: AD23 NC
part 90 pins: AE4 NC
part 91 pins: AE5 NC
part 92 pins: AE6 NC
part 93 pins: AE7 NC
part 94 pins: AE9 NC
part 95 pins: AE11 NC
part 96 pins: AE12 NC
part 97 pins: AE14 NC
part 98 pins: AE15 NC
part 99 pins: AE16 NC
part 100 pins: AE18 NC
part 101 pins: AE19 NC
part 102 pins: AE20 NC
part 103 pins: AE21 NC
part 104 pins: AE22 NC
part 105 pins: AE23 NC
part 106 pins: B4 NC
part 107 pins: B5 NC
part 108 pins: B6 NC
part 109 pins: B7 NC
part 110 pins: B8 NC
part 111 pins: B9 NC
part 112 pins: B11 NC
part 113 pins: B12 NC
part 114 pins: B13 NC
part 115 pins: B14 NC
part 116 pins: B15 NC
part 117 pins: B16 NC
part 118 pins: B18 NC
part 119 pins: B19 NC
part 120 pins: B20 NC
part 121 pins: B21 NC
part 122 pins: B22 NC
part 123 pins: B23 NC
part 124 pins: C4 NC
part 125 pins: C23 NC
part 126 pins: D4 NC
part 127 pins: D23 NC
part 128 pins: E4 NC
part 129 pins: E22 NC
part 130 pins: F4 NC
part 131 pins: F23 NC
part 132 pins: G4 NC
part 133 pins: H4 NC
part 134 pins: H23 NC
part 135 pins: J23 NC
part 136 pins: K4 NC
part 137 pins: L4 NC
part 138 pins: L23 NC
part 139 pins: N4 NC
part 140 pins: P4 NC
part 141 pins: P23 NC
part 142 pins: T4 NC
part 143 pins: T23 NC
part 144 pins: U4 NC
part 145 pins: V4 NC
part 146 pins: V23 NC
part 147 pins: W4 NC
part 148 pins: Y4 NC

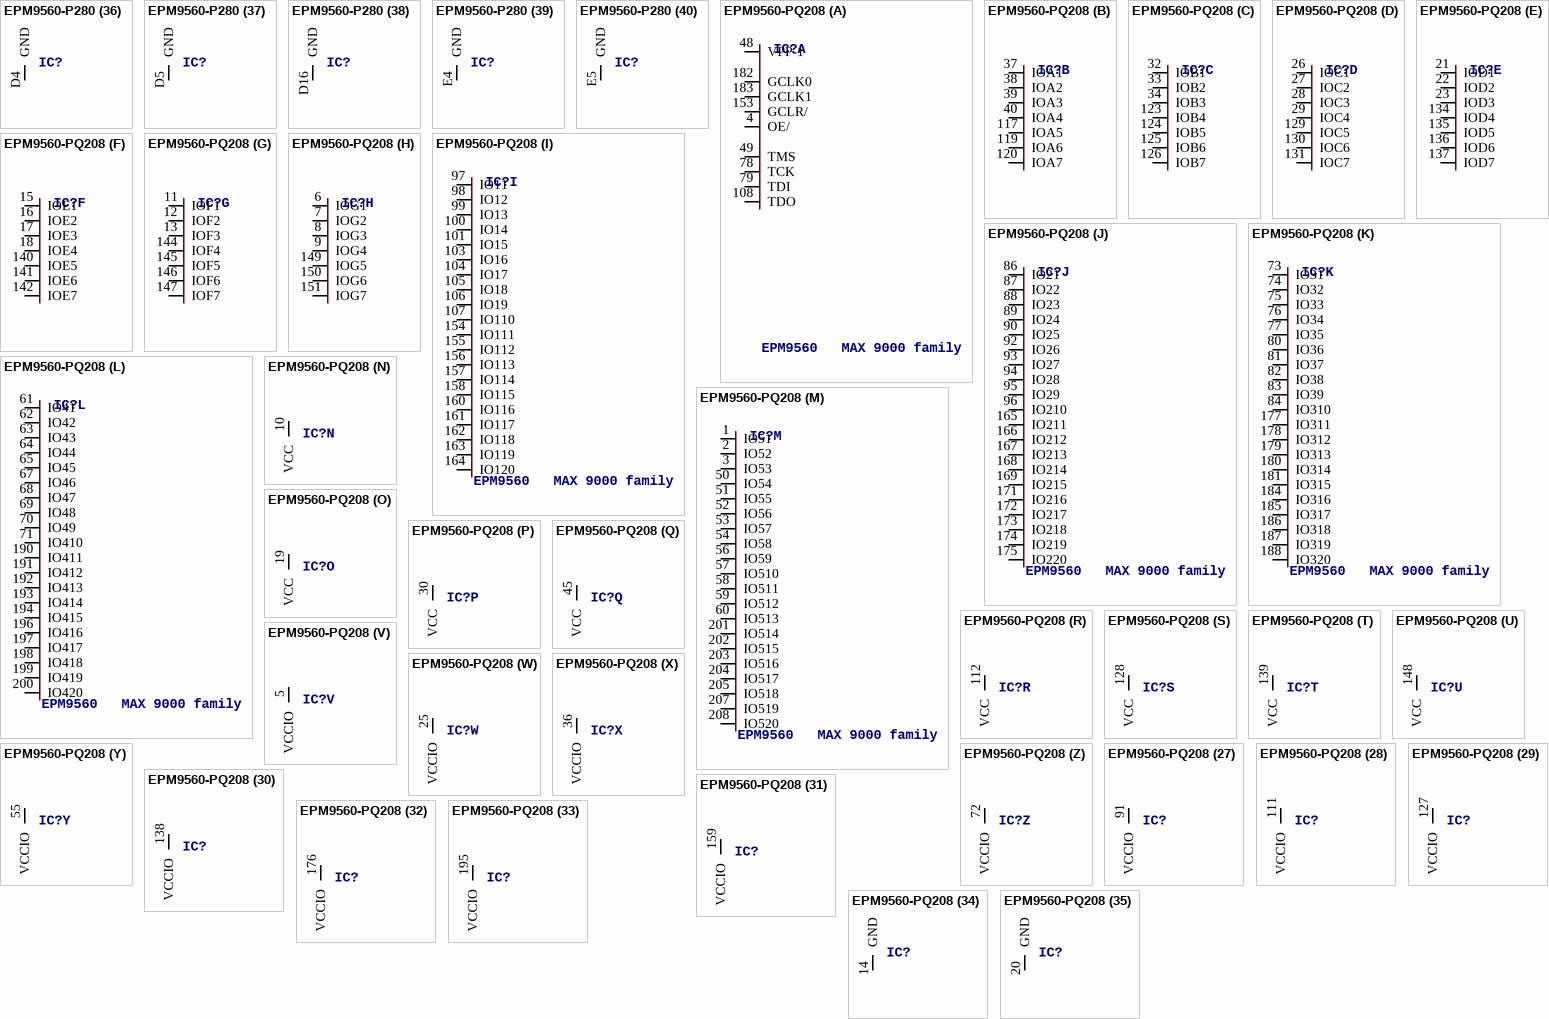
[diagram p54: symbols EPM9560-P280 to EPM9560-PQ208]

## EPM9560-P280
designator IC?, comment EPM9560   MAX 9000 family
OC_FARNELL: unknown; OC_NEWARK: unknown
footprint PGA280
part A pins: A9 TCK, A18 TDO, C4 VPP-1, C11 TDI, D6 TMS, U10 GCLK1, V10 GCLK0, V17 GCLR/, W2 OE/
part B pins: A19 IOA8, B1 IOA9, B18 IOA10, B19 IOA11, C1 IOA3, C2 IOA12, C3 IOA13, C18 IOA14, C19 IOA7, D1 IOA1, D2 IOA4, D3 IOA15, D17 IOA16, D18 IOA5, E3 IOA2, E17 IOA6
part C pins: D19 IOB8, E1 IOB9, E2 IOB3, E18 IOB10, E19 IOB11, F1 IOB12, F2 IOB13, F3 IOB2, F4 IOB14, F16 IOB4, F17 IOB15, F18 IOB7, G2 IOB1, G4 IOB16, G16 IOB5, G17 IOB6
part D pins: F19 IOC8, G1 IOC9, G3 IOC10, G18 IOC11, G19 IOC12, H1 IOC3, H2 IOC13, H3 IOC4, H4 IOC14, H16 IOC15, H17 IOC16, H18 IOC7, J2 IOC1, J4 IOC2, J16 IOC5, J17 IOC6
part E pins: H19 IOD8, J1 IOD9, J3 IOD10, J18 IOD11, J19 IOD5, K1 IOD12, K2 IOD13, K3 IOD14, K4 IOD3, K16 IOD15, K17 IOD16, K18 IOD7, L1 IOD1, L3 IOD2, L16 IOD6, L17 IOD4
part F pins: K19 IOE8, L2 IOE9, L4 IOE10, L18 IOE11, L19 IOE12, M1 IOE13, M2 IOE3, M3 IOE14, M4 IOE4, M16 IOE15, M17 IOE16, M19 IOE7, N1 IOE1, N2 IOE2, N16 IOE6, N17 IOE5
part G pins: M18 IOF8, N3 IOF9, N4 IOF10, N18 IOF5, N19 IOF11, P1 IOF12, P2 IOF3, P3 IOF2, P17 IOF13, P18 IOF14, P19 IOF7, R1 IOF15, R17 IOF6, R18 IOF4, T1 IOF16, T2 IOF1
part H pins: R2 IOG8, R3 IOG9, R19 IOG10, T3 IOG4, T17 IOG11, T18 IOG12, T19 IOG13, U1 IOG14, U2 IOG15, U3 IOG2, U17 IOG6, U18 IOG5, U19 IOG16, V1 IOG3, V2 IOG1, V19 IOG7
part I pins: A15 IO14, A16 IO17, A17 IO19, B14 IO11, B15 IO12, B16 IO15, B17 IO18, C15 IO13, C16 IO16, C17 IO110, U15 IO117, U16 IO112, V15 IO119, V16 IO114, V18 IO113, W15 IO120, W16 IO118, W17 IO116, W18 IO115, W19 IO111
part J pins: A12 IO23, A13 IO26, A14 IO210, B11 IO21, B12 IO25, B13 IO28, C13 IO22, C14 IO29, D12 IO24, D13 IO27, T11 IO220, T12 IO215, U13 IO216, U14 IO211, V12 IO217, V13 IO218, V14 IO213, W12 IO219, W13 IO214, W14 IO212
part K pins: A7 IO32, A8 IO34, A10 IO38, A11 IO310, B9 IO31, B10 IO36, C10 IO35, C12 IO39, D10 IO33, D11 IO37, T9 IO319, T10 IO313, U9 IO317, U11 IO315, U12 IO311, V9 IO320, V11 IO312, W9 IO318, W10 IO316, W11 IO314
part L pins: A4 IO44, A5 IO47, A6 IO49, B5 IO42, B7 IO43, B8 IO410, C7 IO41, C8 IO45, C9 IO48, D9 IO46, T8 IO419, U8 IO414, V5 IO420, V6 IO416, V7 IO417, V8 IO412, W5 IO418, W6 IO415, W7 IO413, W8 IO411
part M pins: A1 IO56, A2 IO59, A3 IO513, B2 IO54, B3 IO58, B4 IO511, C5 IO55, C6 IO57, D7 IO510, D8 IO512, T6 IO51, T7 IO516, U4 IO53, U5 IO519, U6 IO518, U7 IO514, V3 IO52, V4 IO517, W3 IO520, W4 IO515
part N pins: D15 VCC (power)
part O pins: E8 VCC (power)
part P pins: E10 VCC (power)
part Q pins: E12 VCC (power)
part R pins: E14 VCC (power)
part S pins: R7 VCC (power)
part T pins: R9 VCC (power)
part U pins: R11 VCC (power)
part V pins: R13 VCC (power)
part W pins: R14 VCC (power)
part X pins: T14 VCC (power)
part Y pins: D14 VCCIO (power)
part Z pins: E7 VCCIO (power)
part 27 pins: E9 VCCIO (power)
part 28 pins: E11 VCCIO (power)
part 29 pins: E13 VCCIO (power)
part 30 pins: R6 VCCIO (power)
part 31 pins: R8 VCCIO (power)
part 32 pins: R10 VCCIO (power)
part 33 pins: R12 VCCIO (power)
part 34 pins: T13 VCCIO (power)
part 35 pins: T15 VCCIO (power)
part 36 pins: D4 GND (power)
part 37 pins: D5 GND (power)
part 38 pins: D16 GND (power)
part 39 pins: E4 GND (power)
part 40 pins: E5 GND (power)
part 41 pins: E6 GND (power)
part 42 pins: E15 GND (power)
part 43 pins: E16 GND (power)
part 44 pins: F5 GND (power)
part 45 pins: F15 GND (power)
part 46 pins: G5 GND (power)
part 47 pins: G15 GND (power)
part 48 pins: H5 GND (power)
part 49 pins: H15 GND (power)
part 50 pins: J5 GND (power)
part 51 pins: J15 GND (power)
part 52 pins: K5 GND (power)
part 53 pins: K15 GND (power)
part 54 pins: L5 GND (power)
part 55 pins: L15 GND (power)
part 56 pins: M5 GND (power)
part 57 pins: M15 GND (power)
part 58 pins: N5 GND (power)
part 59 pins: N15 GND (power)
part 60 pins: P4 GND (power)
part 61 pins: P5 GND (power)
part 62 pins: P15 GND (power)
part 63 pins: P16 GND (power)
part 64 pins: R4 GND (power)
part 65 pins: R5 GND (power)
part 66 pins: R15 GND (power)
part 67 pins: R16 GND (power)
part 68 pins: T4 GND (power)
part 69 pins: T5 GND (power)
part 70 pins: T16 GND (power)
part 71 pins: B6 NC
part 72 pins: W1 NC

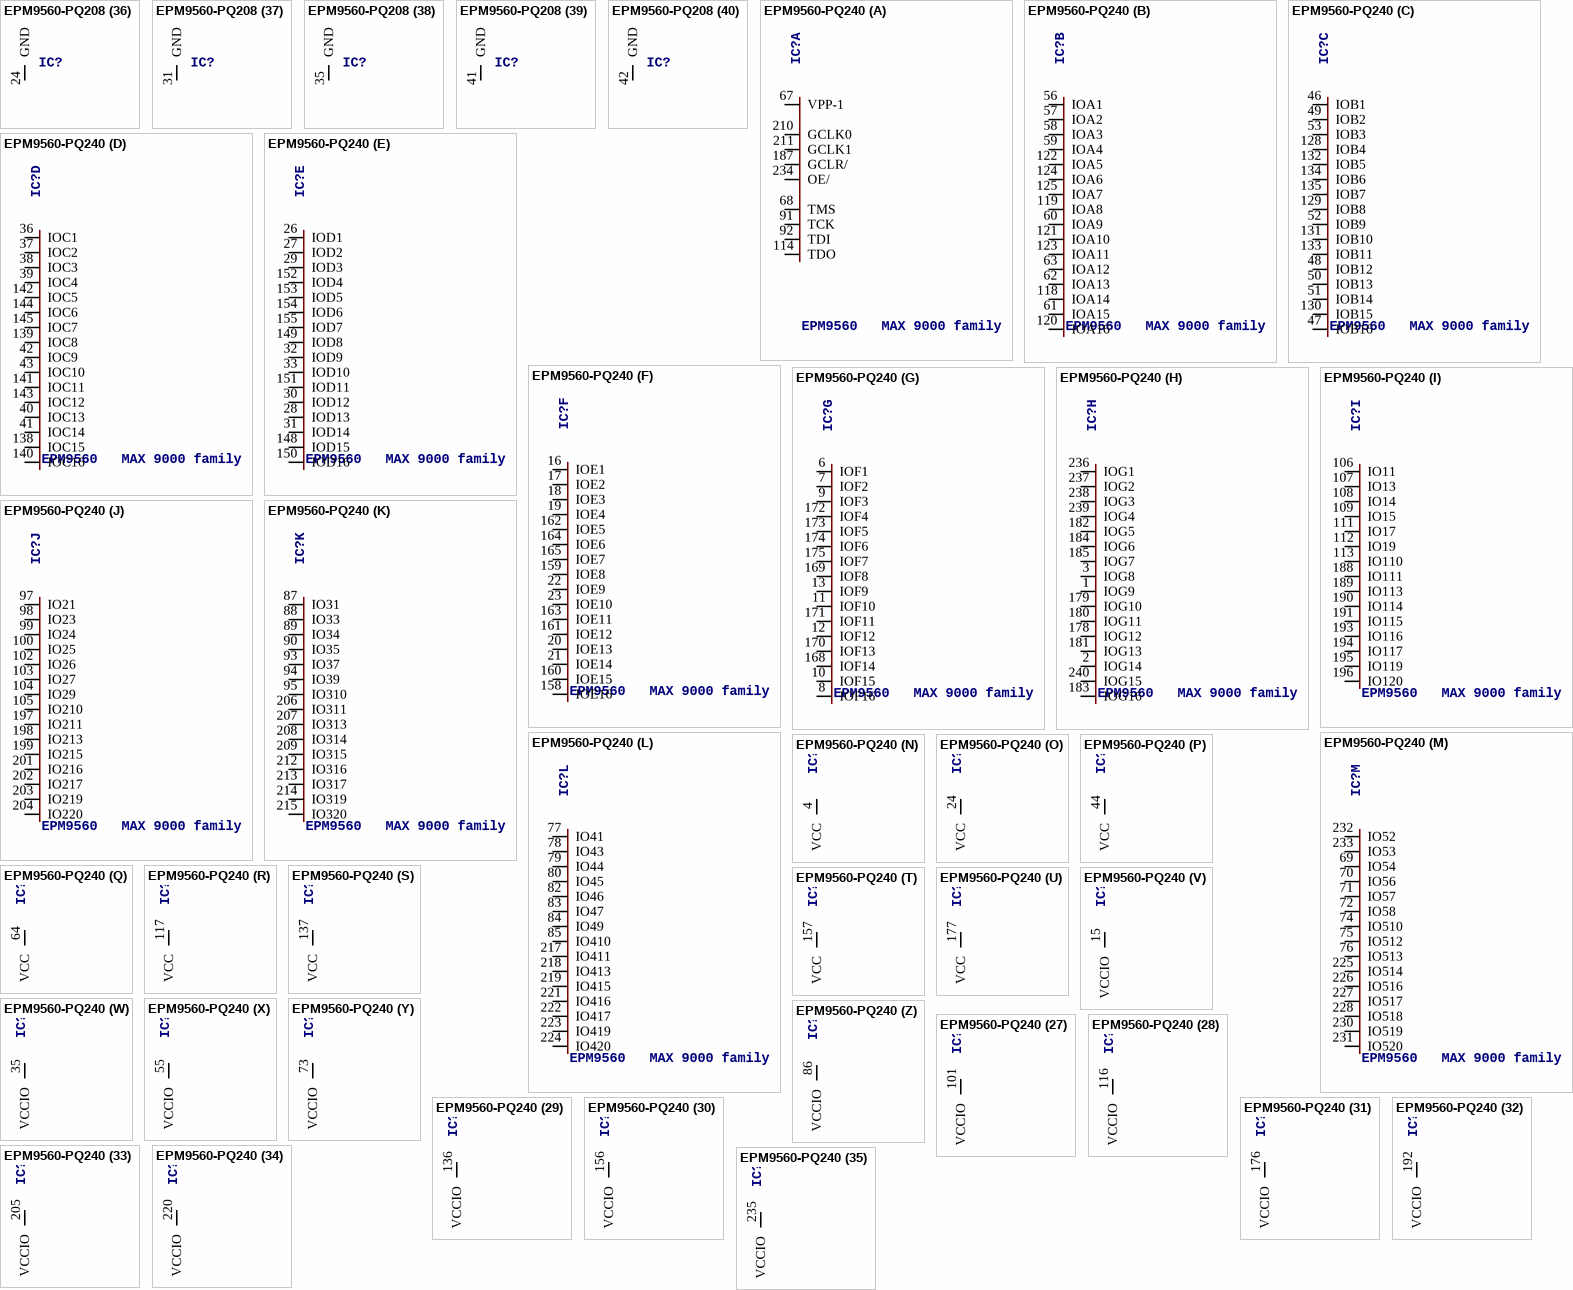
[diagram p55: symbols EPM9560-PQ208 to EPM9560-PQ240]

## EPM9560-PQ208
designator IC?, comment EPM9560   MAX 9000 family
MPN: EPM9560ARC208-10; OC_FARNELL: unknown; OC_NEWARK: 51R9961
footprint PQFP208
part A pins: 4 OE/, 48 VPP-1, 49 TMS, 78 TCK, 79 TDI, 108 TDO, 153 GCLR/, 182 GCLK0, 183 GCLK1
part B pins: 37 IOA1, 38 IOA2, 39 IOA3, 40 IOA4, 117 IOA5, 119 IOA6, 120 IOA7
part C pins: 32 IOB1, 33 IOB2, 34 IOB3, 123 IOB4, 124 IOB5, 125 IOB6, 126 IOB7
part D pins: 26 IOC1, 27 IOC2, 28 IOC3, 29 IOC4, 129 IOC5, 130 IOC6, 131 IOC7
part E pins: 21 IOD1, 22 IOD2, 23 IOD3, 134 IOD4, 135 IOD5, 136 IOD6, 137 IOD7
part F pins: 15 IOE1, 16 IOE2, 17 IOE3, 18 IOE4, 140 IOE5, 141 IOE6, 142 IOE7
part G pins: 11 IOF1, 12 IOF2, 13 IOF3, 144 IOF4, 145 IOF5, 146 IOF6, 147 IOF7
part H pins: 6 IOG1, 7 IOG2, 8 IOG3, 9 IOG4, 149 IOG5, 150 IOG6, 151 IOG7
part I pins: 97 IO11, 98 IO12, 99 IO13, 100 IO14, 101 IO15, 103 IO16, 104 IO17, 105 IO18, 106 IO19, 107 IO110, 154 IO111, 155 IO112, 156 IO113, 157 IO114, 158 IO115, 160 IO116, 161 IO117, 162 IO118, 163 IO119, 164 IO120
part J pins: 86 IO21, 87 IO22, 88 IO23, 89 IO24, 90 IO25, 92 IO26, 93 IO27, 94 IO28, 95 IO29, 96 IO210, 165 IO211, 166 IO212, 167 IO213, 168 IO214, 169 IO215, 171 IO216, 172 IO217, 173 IO218, 174 IO219, 175 IO220
part K pins: 73 IO31, 74 IO32, 75 IO33, 76 IO34, 77 IO35, 80 IO36, 81 IO37, 82 IO38, 83 IO39, 84 IO310, 177 IO311, 178 IO312, 179 IO313, 180 IO314, 181 IO315, 184 IO316, 185 IO317, 186 IO318, 187 IO319, 188 IO320
part L pins: 61 IO41, 62 IO42, 63 IO43, 64 IO44, 65 IO45, 67 IO46, 68 IO47, 69 IO48, 70 IO49, 71 IO410, 190 IO411, 191 IO412, 192 IO413, 193 IO414, 194 IO415, 196 IO416, 197 IO417, 198 IO418, 199 IO419, 200 IO420
part M pins: 1 IO51, 2 IO52, 3 IO53, 50 IO54, 51 IO55, 52 IO56, 53 IO57, 54 IO58, 56 IO59, 57 IO510, 58 IO511, 59 IO512, 60 IO513, 201 IO514, 202 IO515, 203 IO516, 204 IO517, 205 IO518, 207 IO519, 208 IO520
part N pins: 10 VCC (power)
part O pins: 19 VCC (power)
part P pins: 30 VCC (power)
part Q pins: 45 VCC (power)
part R pins: 112 VCC (power)
part S pins: 128 VCC (power)
part T pins: 139 VCC (power)
part U pins: 148 VCC (power)
part V pins: 5 VCCIO (power)
part W pins: 25 VCCIO (power)
part X pins: 36 VCCIO (power)
part Y pins: 55 VCCIO (power)
part Z pins: 72 VCCIO (power)
part 27 pins: 91 VCCIO (power)
part 28 pins: 111 VCCIO (power)
part 29 pins: 127 VCCIO (power)
part 30 pins: 138 VCCIO (power)
part 31 pins: 159 VCCIO (power)
part 32 pins: 176 VCCIO (power)
part 33 pins: 195 VCCIO (power)
part 34 pins: 14 GND (power)
part 35 pins: 20 GND (power)
part 36 pins: 24 GND (power)
part 37 pins: 31 GND (power)
part 38 pins: 35 GND (power)
part 39 pins: 41 GND (power)
part 40 pins: 42 GND (power)
part 41 pins: 43 GND (power)
part 42 pins: 44 GND (power)
part 43 pins: 46 GND (power)
part 44 pins: 47 GND (power)
part 45 pins: 66 GND (power)
part 46 pins: 85 GND (power)
part 47 pins: 102 GND (power)
part 48 pins: 110 GND (power)
part 49 pins: 113 GND (power)
part 50 pins: 114 GND (power)
part 51 pins: 115 GND (power)
part 52 pins: 116 GND (power)
part 53 pins: 118 GND (power)
part 54 pins: 121 GND (power)
part 55 pins: 122 GND (power)
part 56 pins: 132 GND (power)
part 57 pins: 133 GND (power)
part 58 pins: 143 GND (power)
part 59 pins: 152 GND (power)
part 60 pins: 170 GND (power)
part 61 pins: 189 GND (power)
part 62 pins: 206 GND (power)
part 63 pins: 109 NC

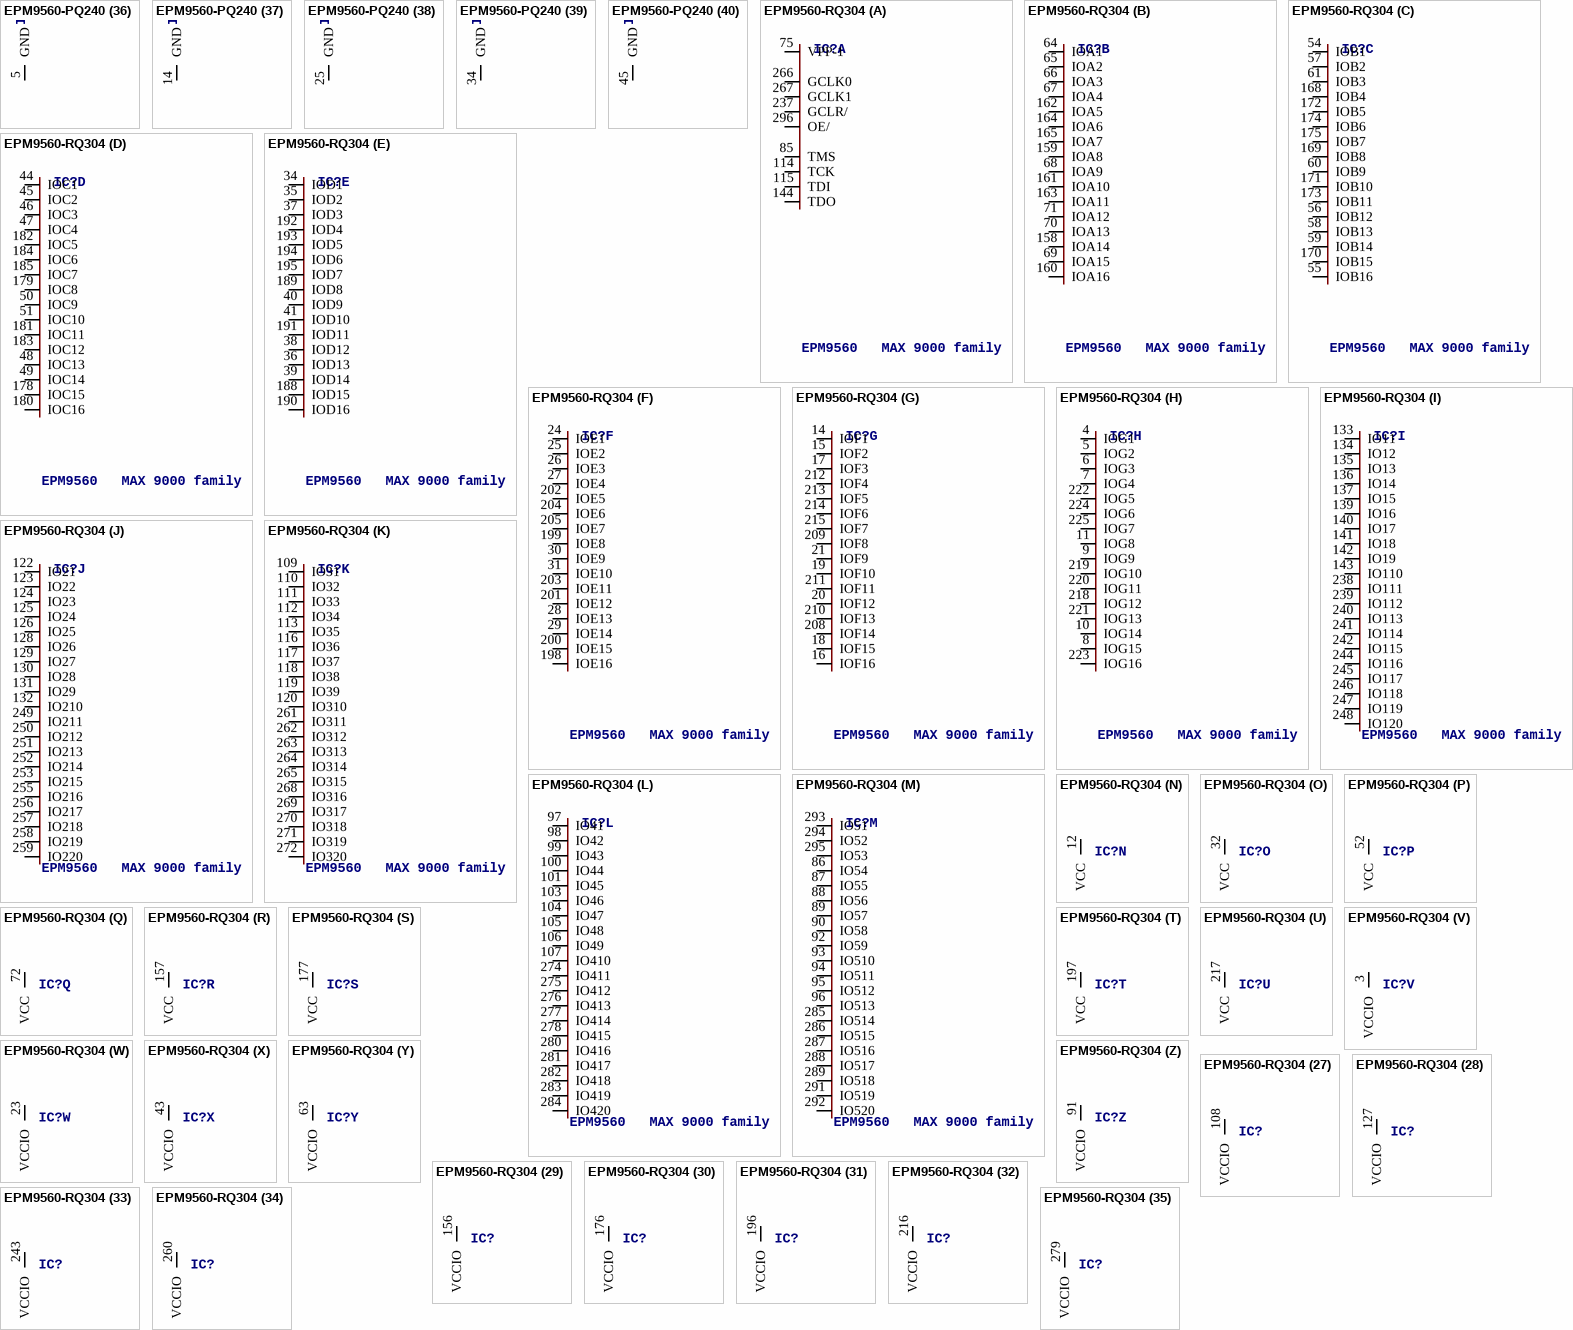
[diagram p56: symbols EPM9560-PQ240 to EPM9560-RQ304]

## EPM9560-PQ240
designator IC?, comment EPM9560   MAX 9000 family
MPN: EPM9560ARC240-10; OC_FARNELL: unknown; OC_NEWARK: 51R9963
footprint PQFP240
part A pins: 67 VPP-1, 68 TMS, 91 TCK, 92 TDI, 114 TDO, 187 GCLR/, 210 GCLK0, 211 GCLK1, 234 OE/
part B pins: 56 IOA1, 57 IOA2, 58 IOA3, 59 IOA4, 60 IOA9, 61 IOA15, 62 IOA13, 63 IOA12, 118 IOA14, 119 IOA8, 120 IOA16, 121 IOA10, 122 IOA5, 123 IOA11, 124 IOA6, 125 IOA7
part C pins: 46 IOB1, 47 IOB16, 48 IOB12, 49 IOB2, 50 IOB13, 51 IOB14, 52 IOB9, 53 IOB3, 128 IOB4, 129 IOB8, 130 IOB15, 131 IOB10, 132 IOB5, 133 IOB11, 134 IOB6, 135 IOB7
part D pins: 36 IOC1, 37 IOC2, 38 IOC3, 39 IOC4, 40 IOC13, 41 IOC14, 42 IOC9, 43 IOC10, 138 IOC15, 139 IOC8, 140 IOC16, 141 IOC11, 142 IOC5, 143 IOC12, 144 IOC6, 145 IOC7
part E pins: 26 IOD1, 27 IOD2, 28 IOD13, 29 IOD3, 30 IOD12, 31 IOD14, 32 IOD9, 33 IOD10, 148 IOD15, 149 IOD8, 150 IOD16, 151 IOD11, 152 IOD4, 153 IOD5, 154 IOD6, 155 IOD7
part F pins: 16 IOE1, 17 IOE2, 18 IOE3, 19 IOE4, 20 IOE13, 21 IOE14, 22 IOE9, 23 IOE10, 158 IOE16, 159 IOE8, 160 IOE15, 161 IOE12, 162 IOE5, 163 IOE11, 164 IOE6, 165 IOE7
part G pins: 6 IOF1, 7 IOF2, 8 IOF16, 9 IOF3, 10 IOF15, 11 IOF10, 12 IOF12, 13 IOF9, 168 IOF14, 169 IOF8, 170 IOF13, 171 IOF11, 172 IOF4, 173 IOF5, 174 IOF6, 175 IOF7
part H pins: 1 IOG9, 2 IOG14, 3 IOG8, 178 IOG12, 179 IOG10, 180 IOG11, 181 IOG13, 182 IOG5, 183 IOG16, 184 IOG6, 185 IOG7, 236 IOG1, 237 IOG2, 238 IOG3, 239 IOG4, 240 IOG15
part I pins: 106 IO11, 107 IO13, 108 IO14, 109 IO15, 111 IO17, 112 IO19, 113 IO110, 188 IO111, 189 IO113, 190 IO114, 191 IO115, 193 IO116, 194 IO117, 195 IO119, 196 IO120
part J pins: 97 IO21, 98 IO23, 99 IO24, 100 IO25, 102 IO26, 103 IO27, 104 IO29, 105 IO210, 197 IO211, 198 IO213, 199 IO215, 201 IO216, 202 IO217, 203 IO219, 204 IO220
part K pins: 87 IO31, 88 IO33, 89 IO34, 90 IO35, 93 IO37, 94 IO39, 95 IO310, 206 IO311, 207 IO313, 208 IO314, 209 IO315, 212 IO316, 213 IO317, 214 IO319, 215 IO320
part L pins: 77 IO41, 78 IO43, 79 IO44, 80 IO45, 82 IO46, 83 IO47, 84 IO49, 85 IO410, 217 IO411, 218 IO413, 219 IO415, 221 IO416, 222 IO417, 223 IO419, 224 IO420
part M pins: 69 IO54, 70 IO56, 71 IO57, 72 IO58, 74 IO510, 75 IO512, 76 IO513, 225 IO514, 226 IO516, 227 IO517, 228 IO518, 230 IO519, 231 IO520, 232 IO52, 233 IO53
part N pins: 4 VCC (power)
part O pins: 24 VCC (power)
part P pins: 44 VCC (power)
part Q pins: 64 VCC (power)
part R pins: 117 VCC (power)
part S pins: 137 VCC (power)
part T pins: 157 VCC (power)
part U pins: 177 VCC (power)
part V pins: 15 VCCIO (power)
part W pins: 35 VCCIO (power)
part X pins: 55 VCCIO (power)
part Y pins: 73 VCCIO (power)
part Z pins: 86 VCCIO (power)
part 27 pins: 101 VCCIO (power)
part 28 pins: 116 VCCIO (power)
part 29 pins: 136 VCCIO (power)
part 30 pins: 156 VCCIO (power)
part 31 pins: 176 VCCIO (power)
part 32 pins: 192 VCCIO (power)
part 33 pins: 205 VCCIO (power)
part 34 pins: 220 VCCIO (power)
part 35 pins: 235 VCCIO (power)
part 36 pins: 5 GND (power)
part 37 pins: 14 GND (power)
part 38 pins: 25 GND (power)
part 39 pins: 34 GND (power)
part 40 pins: 45 GND (power)
part 41 pins: 54 GND (power)
part 42 pins: 65 GND (power)
part 43 pins: 66 GND (power)
part 44 pins: 81 GND (power)
part 45 pins: 96 GND (power)
part 46 pins: 110 GND (power)
part 47 pins: 115 GND (power)
part 48 pins: 126 GND (power)
part 49 pins: 127 GND (power)
part 50 pins: 146 GND (power)
part 51 pins: 147 GND (power)
part 52 pins: 166 GND (power)
part 53 pins: 167 GND (power)
part 54 pins: 186 GND (power)
part 55 pins: 200 GND (power)
part 56 pins: 216 GND (power)
part 57 pins: 229 GND (power)

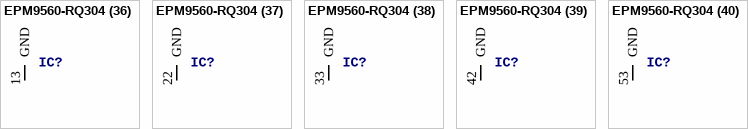
[diagram p57: symbol EPM9560-RQ304]

## EPM9560-RQ304
designator IC?, comment EPM9560   MAX 9000 family
OC_FARNELL: unknown; OC_NEWARK: unknown
footprint RQFP304
part A pins: 75 VPP-1, 85 TMS, 114 TCK, 115 TDI, 144 TDO, 237 GCLR/, 266 GCLK0, 267 GCLK1, 296 OE/
part B pins: 64 IOA1, 65 IOA2, 66 IOA3, 67 IOA4, 68 IOA9, 69 IOA15, 70 IOA13, 71 IOA12, 158 IOA14, 159 IOA8, 160 IOA16, 161 IOA10, 162 IOA5, 163 IOA11, 164 IOA6, 165 IOA7
part C pins: 54 IOB1, 55 IOB16, 56 IOB12, 57 IOB2, 58 IOB13, 59 IOB14, 60 IOB9, 61 IOB3, 168 IOB4, 169 IOB8, 170 IOB15, 171 IOB10, 172 IOB5, 173 IOB11, 174 IOB6, 175 IOB7
part D pins: 44 IOC1, 45 IOC2, 46 IOC3, 47 IOC4, 48 IOC13, 49 IOC14, 50 IOC9, 51 IOC10, 178 IOC15, 179 IOC8, 180 IOC16, 181 IOC11, 182 IOC5, 183 IOC12, 184 IOC6, 185 IOC7
part E pins: 34 IOD1, 35 IOD2, 36 IOD13, 37 IOD3, 38 IOD12, 39 IOD14, 40 IOD9, 41 IOD10, 188 IOD15, 189 IOD8, 190 IOD16, 191 IOD11, 192 IOD4, 193 IOD5, 194 IOD6, 195 IOD7
part F pins: 24 IOE1, 25 IOE2, 26 IOE3, 27 IOE4, 28 IOE13, 29 IOE14, 30 IOE9, 31 IOE10, 198 IOE16, 199 IOE8, 200 IOE15, 201 IOE12, 202 IOE5, 203 IOE11, 204 IOE6, 205 IOE7
part G pins: 14 IOF1, 15 IOF2, 16 IOF16, 17 IOF3, 18 IOF15, 19 IOF10, 20 IOF12, 21 IOF9, 208 IOF14, 209 IOF8, 210 IOF13, 211 IOF11, 212 IOF4, 213 IOF5, 214 IOF6, 215 IOF7
part H pins: 4 IOG1, 5 IOG2, 6 IOG3, 7 IOG4, 8 IOG15, 9 IOG9, 10 IOG14, 11 IOG8, 218 IOG12, 219 IOG10, 220 IOG11, 221 IOG13, 222 IOG5, 223 IOG16, 224 IOG6, 225 IOG7
part I pins: 133 IO11, 134 IO12, 135 IO13, 136 IO14, 137 IO15, 139 IO16, 140 IO17, 141 IO18, 142 IO19, 143 IO110, 238 IO111, 239 IO112, 240 IO113, 241 IO114, 242 IO115, 244 IO116, 245 IO117, 246 IO118, 247 IO119, 248 IO120
part J pins: 122 IO21, 123 IO22, 124 IO23, 125 IO24, 126 IO25, 128 IO26, 129 IO27, 130 IO28, 131 IO29, 132 IO210, 249 IO211, 250 IO212, 251 IO213, 252 IO214, 253 IO215, 255 IO216, 256 IO217, 257 IO218, 258 IO219, 259 IO220
part K pins: 109 IO31, 110 IO32, 111 IO33, 112 IO34, 113 IO35, 116 IO36, 117 IO37, 118 IO38, 119 IO39, 120 IO310, 261 IO311, 262 IO312, 263 IO313, 264 IO314, 265 IO315, 268 IO316, 269 IO317, 270 IO318, 271 IO319, 272 IO320
part L pins: 97 IO41, 98 IO42, 99 IO43, 100 IO44, 101 IO45, 103 IO46, 104 IO47, 105 IO48, 106 IO49, 107 IO410, 274 IO411, 275 IO412, 276 IO413, 277 IO414, 278 IO415, 280 IO416, 281 IO417, 282 IO418, 283 IO419, 284 IO420
part M pins: 86 IO54, 87 IO55, 88 IO56, 89 IO57, 90 IO58, 92 IO59, 93 IO510, 94 IO511, 95 IO512, 96 IO513, 285 IO514, 286 IO515, 287 IO516, 288 IO517, 289 IO518, 291 IO519, 292 IO520, 293 IO51, 294 IO52, 295 IO53
part N pins: 12 VCC (power)
part O pins: 32 VCC (power)
part P pins: 52 VCC (power)
part Q pins: 72 VCC (power)
part R pins: 157 VCC (power)
part S pins: 177 VCC (power)
part T pins: 197 VCC (power)
part U pins: 217 VCC (power)
part V pins: 3 VCCIO (power)
part W pins: 23 VCCIO (power)
part X pins: 43 VCCIO (power)
part Y pins: 63 VCCIO (power)
part Z pins: 91 VCCIO (power)
part 27 pins: 108 VCCIO (power)
part 28 pins: 127 VCCIO (power)
part 29 pins: 156 VCCIO (power)
part 30 pins: 176 VCCIO (power)
part 31 pins: 196 VCCIO (power)
part 32 pins: 216 VCCIO (power)
part 33 pins: 243 VCCIO (power)
part 34 pins: 260 VCCIO (power)
part 35 pins: 279 VCCIO (power)
part 36 pins: 13 GND (power)
part 37 pins: 22 GND (power)
part 38 pins: 33 GND (power)
part 39 pins: 42 GND (power)
part 40 pins: 53 GND (power)
part 41 pins: 62 GND (power)
part 42 pins: 73 GND (power)
part 43 pins: 74 GND (power)
part 44 pins: 102 GND (power)
part 45 pins: 121 GND (power)
part 46 pins: 138 GND (power)
part 47 pins: 155 GND (power)
part 48 pins: 166 GND (power)
part 49 pins: 167 GND (power)
part 50 pins: 186 GND (power)
part 51 pins: 187 GND (power)
part 52 pins: 206 GND (power)
part 53 pins: 207 GND (power)
part 54 pins: 226 GND (power)
part 55 pins: 254 GND (power)
part 56 pins: 273 GND (power)
part 57 pins: 290 GND (power)
part 58 pins: 1 NC
part 59 pins: 2 NC
part 60 pins: 76 NC
part 61 pins: 77 NC
part 62 pins: 78 NC
part 63 pins: 79 NC
part 64 pins: 80 NC
part 65 pins: 81 NC
part 66 pins: 82 NC
part 67 pins: 83 NC
part 68 pins: 84 NC
part 69 pins: 145 NC
part 70 pins: 146 NC
part 71 pins: 147 NC
part 72 pins: 148 NC
part 73 pins: 149 NC
part 74 pins: 150 NC
part 75 pins: 151 NC
part 76 pins: 152 NC
part 77 pins: 153 NC
part 78 pins: 154 NC
part 79 pins: 227 NC
part 80 pins: 228 NC
part 81 pins: 229 NC
part 82 pins: 230 NC
part 83 pins: 231 NC
part 84 pins: 232 NC
part 85 pins: 233 NC
part 86 pins: 234 NC
part 87 pins: 235 NC
part 88 pins: 236 NC
part 89 pins: 297 NC
part 90 pins: 298 NC
part 91 pins: 299 NC
part 92 pins: 300 NC
part 93 pins: 301 NC
part 94 pins: 302 NC
part 95 pins: 303 NC
part 96 pins: 304 NC